# Altium schematic symbol library syhaunguyen.SchLib: 323 symbols (part 1 of 3)
Pins are listed as number, name and electrical type; pins without a type are passive.

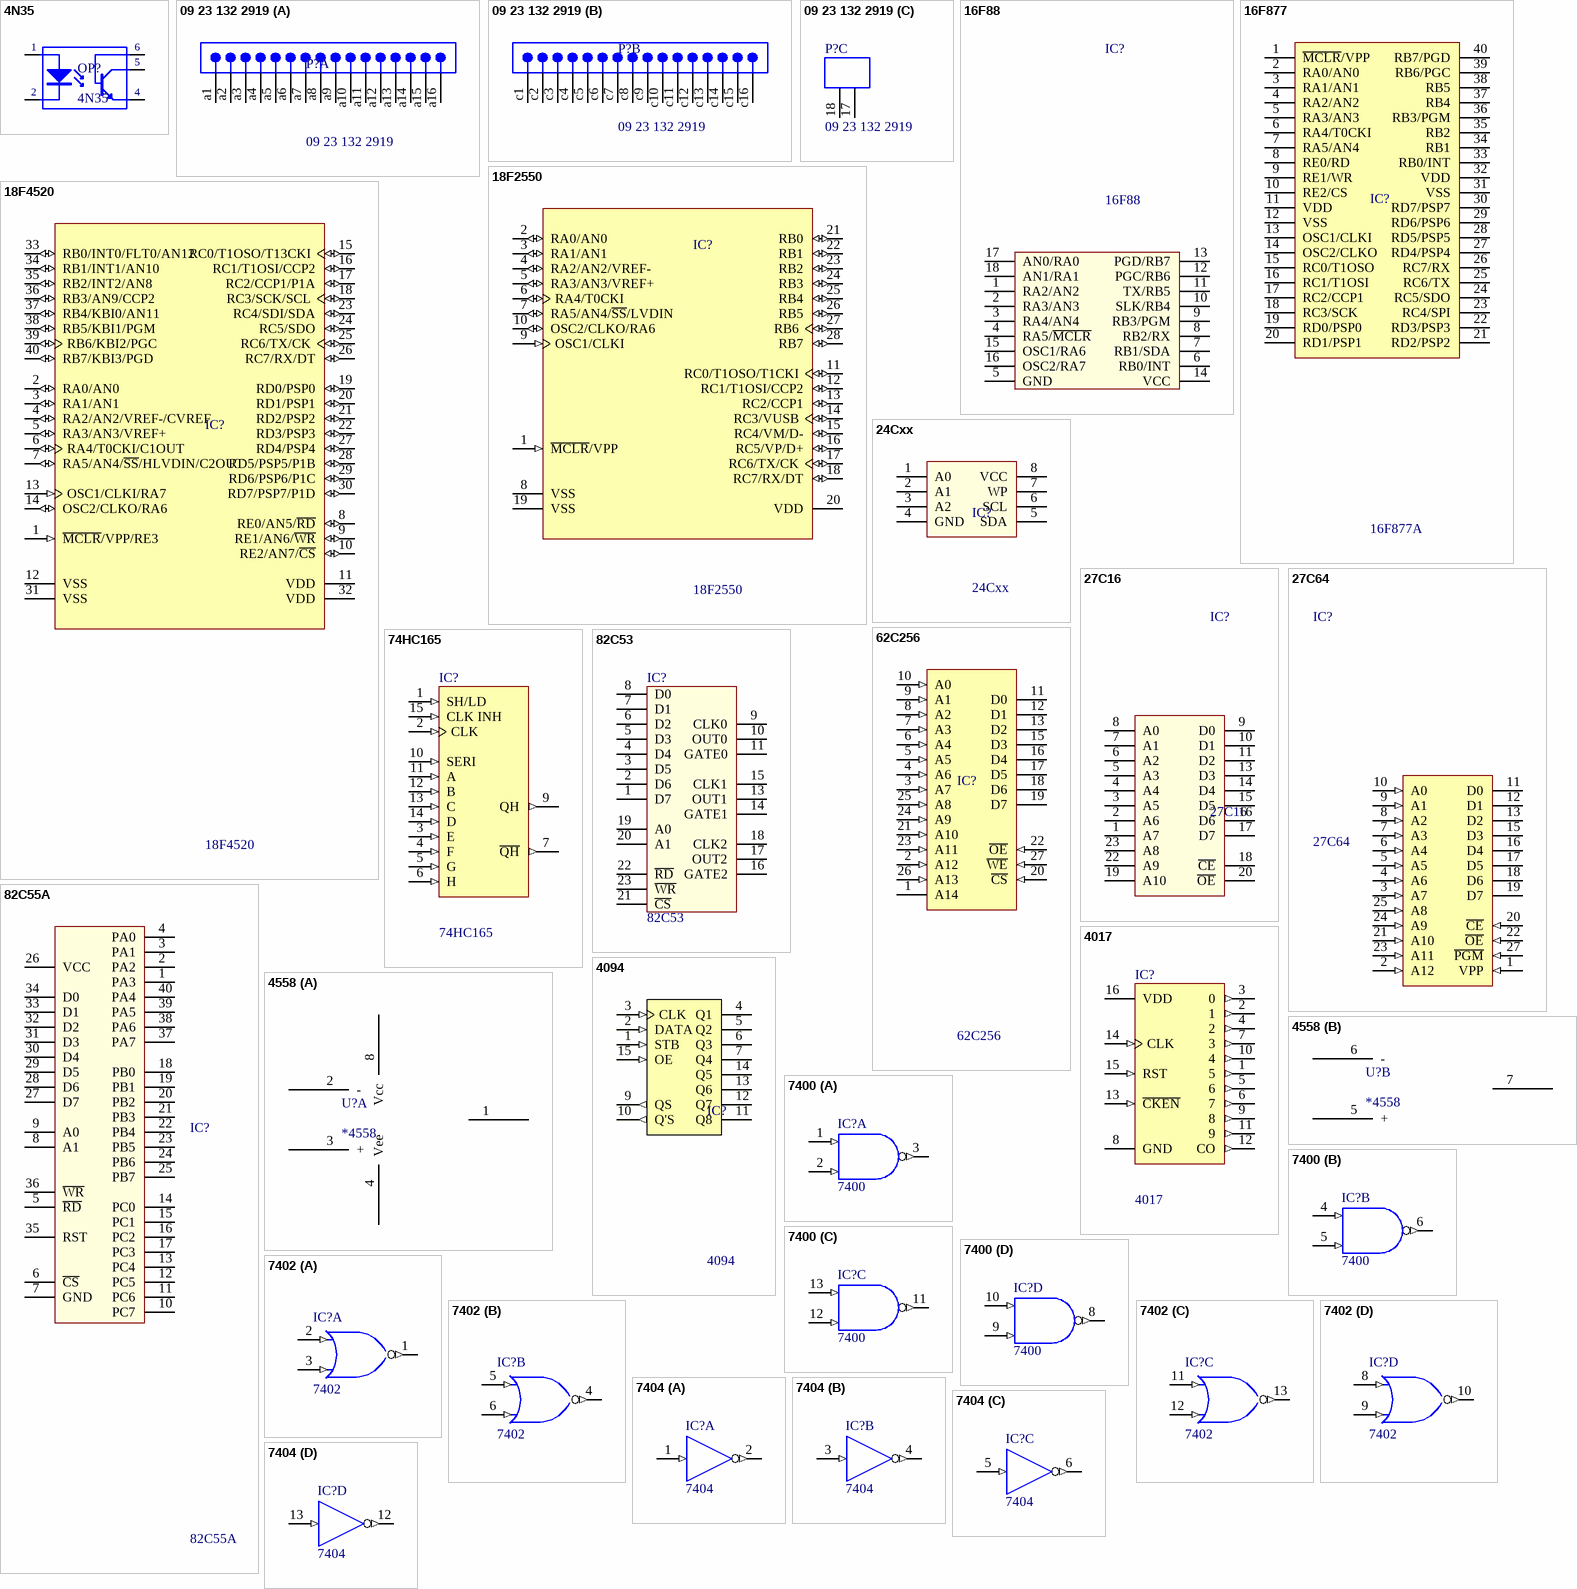
[diagram p0: symbols 4N35 to 7404]

## 4N35
designator OP?
Opto; Value: 4N35
footprint DIP6/W0.3 (6 PIN, W 300mil, Pin to pin 100mil)
pins: 1 A "Anode", 2 K "Cathode", 4 E "Emitter", 5 C "Collector", 6 C "Collector"

## 09 23 132 2919
designator P?
Eurocard DIN 41612, Type 2C, Half Size, 32 Position, Rows a+c, Performance level 1, Male, Lead 3.0 mm, Pitch 2.54 mm; DrillSize: Corresponds to nominal value.; Published: 6-Oct-2005; DatasheetDocument: 03-Jun-2003; PackageReference: 0923132x919; Publisher: Altium Limited; ComponentLink1Description: Manufacturer Link; ComponentLink1URL: http://www.harting.com/
footprint 0923132x919 (Connector; DIN 41612, Type 2C, Thru-Hole; Rows a+c, 32 Position; Right Angle)
part A pins: a1, a2, a3, a4, a5, a6, a7, a8, a9, a10, a11, a12, a13, a14, a15, a16
part B pins: c1, c2, c3, c4, c5, c6, c7, c8, c9, c10, c11, c12, c13, c14, c15, c16
part C pins: 17 MH1 "Mounting Fixture", 18 MH2 "Mounting Fixture"

## 16F88
designator IC?
PIC 16F88; Value: DIP18; Value: 16F88
footprint DIP18/W0.3 (18 PIN, W 300mil, Pin to pin 100mil)
pins: 1 RA2/AN2, 2 RA3/AN3, 3 RA4/AN4, 4 RA5/~{MCLR}, 5 GND, 6 RB0/INT, 7 RB1/SDA, 8 RB2/RX, 9 RB3/PGM, 10 SLK/RB4, 11 TX/RB5, 12 PGC/RB6, 13 PGD/RB7, 14 VCC, 15 OSC1/RA6, 16 OSC2/RA7, 17 AN0/RA0, 18 AN1/RA1

## 16F877
designator IC?, comment 16F877A
8K FLASH, 368B RAM, 256B EFROM; Value: PIC16F877A; Value: DIP 40; Copyright by: VanDungEvn
footprint DIP40/W0.6 (40 PIN, W 600mil, Pin to pin 100mil)
pins: 1 ~{MCLR}/VPP, 2 RA0/AN0, 3 RA1/AN1, 4 RA2/AN2, 5 RA3/AN3, 6 RA4/T0CKI, 7 RA5/AN4, 8 RE0/RD, 9 RE1/WR, 10 RE2/CS, 11 VDD, 12 VSS, 13 OSC1/CLKI, 14 OSC2/CLKO, 15 RC0/T1OSO, 16 RC1/T1OSI, 17 RC2/CCP1, 18 RC3/SCK, 19 RD0/PSP0, 20 RD1/PSP1, 21 RD2/PSP2, 22 RD3/PSP3, 23 RC4/SPI, 24 RC5/SDO, 25 RC6/TX, 26 RC7/RX, 27 RD4/PSP4, 28 RD5/PSP5, 29 RD6/PSP6, 30 RD7/PSP7, 31 VSS, 32 VDD, 33 RB0/INT, 34 RB1, 35 RB2, 36 RB3/PGM, 37 RB4, 38 RB5, 39 RB6/PGC, 40 RB7/PGD

## 18F2550
designator IC?
32KB Flash, 2048B RAM, 256B EFROM, 28-Pin PDIP; Value: DIP 28/W0.3; Value: 18F2550; Copyright by: VanDungEvn
footprint DIP28/W0.3 (28 PIN, W 300mil, Pin to pin 100mil)
pins: 1 ~{MCLR}/VPP (in), 2 RA0/AN0 (io), 3 RA1/AN1 (io), 4 RA2/AN2/VREF- (io), 5 RA3/AN3/VREF+ (io), 6 RA4/T0CKI (io), 7 RA5/AN4/~{SS}/LVDIN (io), 8 VSS (power), 9 OSC1/CLKI (in), 10 OSC2/CLKO/RA6 (io), 11 RC0/T1OSO/T1CKI (io), 12 RC1/T1OSI/CCP2 (io), 13 RC2/CCP1 (io), 14 RC3/VUSB (io), 15 RC4/VM/D- (io), 16 RC5/VP/D+ (io), 17 RC6/TX/CK (io), 18 RC7/RX/DT (io), 19 VSS (power), 20 VDD (power), 21 RB0 (io), 22 RB1 (io), 23 RB2 (io), 24 RB3 (io), 25 RB4 (io), 26 RB5 (io), 27 RB6 (io), 28 RB7 (io)

## 18F4520
designator IC?
32KB Flash, 1536B RAM, 256B EFROM, 40-Pin PDIP; Value: DIP 40; Value: 18F4520; Copyright by: VanDungEvn
footprint DIP40/W0.6 (40 PIN, W 600mil, Pin to pin 100mil)
pins: 1 ~{MCLR}/VPP/RE3 (in), 2 RA0/AN0 (io), 3 RA1/AN1 (io), 4 RA2/AN2/VREF-/CVREF (io), 5 RA3/AN3/VREF+ (io), 6 RA4/T0CKI/C1OUT (io), 7 RA5/AN4/~{SS}/HLVDIN/C2OUT (io), 8 RE0/AN5/~{RD} (io), 9 RE1/AN6/~{WR} (io), 10 RE2/AN7/~{CS} (io), 11 VDD (power), 12 VSS (power), 13 OSC1/CLKI/RA7 (in), 14 OSC2/CLKO/RA6 (io), 15 RC0/T1OSO/T13CKI (io), 16 RC1/T1OSI/CCP2 (io), 17 RC2/CCP1/P1A (io), 18 RC3/SCK/SCL (io), 19 RD0/PSP0 (io), 20 RD1/PSP1 (io), 21 RD2/PSP2 (io), 22 RD3/PSP3 (io), 23 RC4/SDI/SDA (io), 24 RC5/SDO (io), 25 RC6/TX/CK (io), 26 RC7/RX/DT (io), 27 RD4/PSP4 (io), 28 RD5/PSP5/P1B (io), 29 RD6/PSP6/P1C (io), 30 RD7/PSP7/P1D (io), 31 VSS (power), 32 VDD (power), 33 RB0/INT0/FLT0/AN12 (io), 34 RB1/INT1/AN10 (io), 35 RB2/INT2/AN8 (io), 36 RB3/AN9/CCP2 (io), 37 RB4/KBI0/AN11 (io), 38 RB5/KBI1/PGM (io), 39 RB6/KBI2/PGC (io), 40 RB7/KBI3/PGD (io)

## 24Cxx
designator IC?
Standard 2-Wire Bus Interface Serial EEPROM; Value: DIP 8; Value: 24Cxx; Copyright by: VanDungEvn
footprint DIP8/W0.3 (8 PIN, W 300mil, Pin to pin 100mil)
pins: 1 A0, 2 A1, 3 A2, 4 GND (power), 5 SDA, 6 SCL, 7 WP, 8 VCC (power)

## 27C16
designator IC?
16Kbit EFROM; Value: DIP 24/W0.6; Value: 27C16; Copyright by: VanDungEvn
footprint DIP24/W0.6 (DIP24/W.600, Pin to pin 100mil)
pins: 1 A7, 2 A6, 3 A5, 4 A4, 5 A3, 6 A2, 7 A1, 8 A0, 9 D0, 10 D1, 11 D2, 12 GND hidden to GND, 13 D3, 14 D4, 15 D5, 16 D6, 17 D7, 18 ~{CE}, 19 A10, 20 ~{OE}, 21 VPP hidden to VCC, 22 A9, 23 A8, 24 VCC hidden to VCC

## 27C64
designator IC?
64K EFROM; Value: DIP28/W0.6; Value: 27C64
footprint DIP28/W0.6 (DIP28/W.600, Pin to pin 100mil)
pins: 1 VPP (in), 2 A12 (in), 3 A7 (in), 4 A6 (in), 5 A5 (in), 6 A4 (in), 7 A3 (in), 8 A2 (in), 9 A1 (in), 10 A0 (in), 11 D0 (hiz), 12 D1 (hiz), 13 D2 (hiz), 14 GND hidden to GND, 15 D3 (hiz), 16 D4 (hiz), 17 D5 (hiz), 18 D6 (hiz), 19 D7 (hiz), 20 ~{CE} (in), 21 A10 (in), 22 ~{OE} (in), 23 A11 (in), 24 A9 (in), 25 A8 (in), 27 ~{PGM} (in), 28 VCC hidden to VCC

## 62C256
designator IC?
32K x 8 LOW POWER CMOS STATIC RAM; Value: DIP28/W0.6; Value: 62C256; Copyright by: VanDungEvn
footprint DIP28/W0.6 (DIP28/W.600, Pin to pin 100mil)
pins: 1 A14, 2 A12 (in), 3 A7 (in), 4 A6 (in), 5 A5 (in), 6 A4 (in), 7 A3 (in), 8 A2 (in), 9 A1 (in), 10 A0 (in), 11 D0 (hiz), 12 D1 (hiz), 13 D2 (hiz), 14 GND hidden to GND, 15 D3 (hiz), 16 D4 (hiz), 17 D5 (hiz), 18 D6 (hiz), 19 D7 (hiz), 20 ~{CS} (in), 21 A10 (in), 22 ~{OE} (in), 23 A11 (in), 24 A9 (in), 25 A8 (in), 26 A13 (in), 27 ~{WE} (in), 28 VCC hidden to VCC

## 74HC165
designator IC?
8-Bit Parallel In/Serial Out Shift Register
footprint DIP16/W0.3 (16 PIN, W 300mil, Pin to pin 100mil)
pins: 1 SH/LD (in), 2 CLK (in), 3 E (in), 4 F (in), 5 G (in), 6 H (in), 7 ~{QH} (out), 8 GND (power) hidden to GND, 9 QH (out), 10 SERI (in), 11 A (in), 12 B (in), 13 C (in), 14 D (in), 15 CLK INH (in), 16 VCC (power) hidden to VCC

## 82C53
designator IC?
Generator program; Value: DIP 24/W0.6; Value: 82C53
footprint DIP24/W0.6 (DIP24/W.600, Pin to pin 100mil)
pins: 1 D7, 2 D6, 3 D5, 4 D4, 5 D3, 6 D2, 7 D1, 8 D0, 9 CLK0, 10 OUT0, 11 GATE0, 12 GND (power) hidden to GND, 13 OUT1, 14 GATE1, 15 CLK1, 16 GATE2, 17 OUT2, 18 CLK2, 19 A0, 20 A1, 21 ~{CS}, 22 ~{RD}, 23 ~{WR}, 24 VCC (power) hidden to VCC

## 82C55A
designator IC?
CMOS Programmable  Peripheral Interface; Value: DIP40/W0.6; Value: 82C55A; Copyright by: VanDungEvn@Gmail.com
footprint DIP40/W0.6 (40 PIN, W 600mil, Pin to pin 100mil)
pins: 1 PA3, 2 PA2, 3 PA1, 4 PA0, 5 ~{RD}, 6 ~{CS}, 7 GND (power), 8 A1, 9 A0, 10 PC7, 11 PC6, 12 PC5, 13 PC4, 14 PC0, 15 PC1, 16 PC2, 17 PC3, 18 PB0, 19 PB1, 20 PB2, 21 PB3, 22 PB4, 23 PB5, 24 PB6, 25 PB7, 26 VCC (power), 27 D7, 28 D6, 29 D5, 30 D4, 31 D3, 32 D2, 33 D1, 34 D0, 35 RST, 36 ~{WR}, 37 PA7, 38 PA6, 39 PA5, 40 PA4

## 4017
designator IC?
Decade Counter/Divider with 10 Decoded Outputs; Designed by: VanDungEvn; Value: CD4017
footprint DIP16/W0.3 (16 PIN, W 300mil, Pin to pin 100mil)
pins: 1 5 (out), 2 1 (out), 3 0 (out), 4 2 (out), 5 6 (out), 6 7 (out), 7 3 (out), 8 GND (power), 9 8 (out), 10 4 (out), 11 9 (out), 12 CO (out), 13 ~{CKEN} (in), 14 CLK (in), 15 RST (in), 16 VDD (power)

## 4094
designator IC?
8-Stage Shift-AND-Store Bus Register; Value: 4094
footprint SO-16 (SOIC, 16-Leads, Body 9.9x3.9mm, Pitch 1.27mm, IPC Medium Density)
footprint DIP16/W0.3 (16 PIN, W 300mil, Pin to pin 100mil)
pins: 1 STB (in), 2 DATA (in), 3 CLK (in), 4 Q1 (hiz), 5 Q2 (hiz), 6 Q3 (hiz), 7 Q4 (hiz), 8 GND (power) hidden to GND, 9 QS (out), 10 Q'S (out), 11 Q8 (hiz), 12 Q7 (hiz), 13 Q6 (hiz), 14 Q5 (hiz), 15 OE (in), 16 VCC (power) hidden to VCC

## 4558
designator U?, comment *4558
footprint DIP8/W0.3 (8 PIN, W 300mil, Pin to pin 100mil)
part A pins: 1, 2 -, 3 +, 4 Vee (power), 8 Vcc (power)
part B pins: 5 +, 6 -, 7

## 7400
designator IC?
Quad 2-Input NAND Gate; Value: DIP14/W0.3; Value: 7400; Copyright by: VanDungEvn@Gmail.com
footprint DIP14/W0.3 (14PIN, W 300mil, Pin to pin 100mil)
pins on every part: 7 GND (power) hidden to GND, 14 VCC (power) hidden to VCC
part A pins: 1 A (in), 2 B (in), 3 ~{O} (out)
part B pins: 4 A (in), 5 B (in), 6 ~{O} (out)
part C pins: 11 ~{O} (out), 12 B (in), 13 A (in)
part D pins: 8 ~{O} (out), 9 B (in), 10 A (in)

## 7402
designator IC?
Quad 2-Input NOR Gate; Description: VanDungEvn@Gmail.com; Value: 7402
footprint DIP14/W0.3 (14PIN, W 300mil, Pin to pin 100mil)
pins on every part: 7 GND (power) hidden to GND, 14 VCC (power) hidden to VCC
part A pins: 1 ~{O} (out), 2 A (in), 3 B (in)
part B pins: 4 ~{O} (out), 5 A (in), 6 B (in)
part C pins: 11 A (in), 12 B (in), 13 ~{O} (out)
part D pins: 8 A (in), 9 B (in), 10 ~{O} (out)

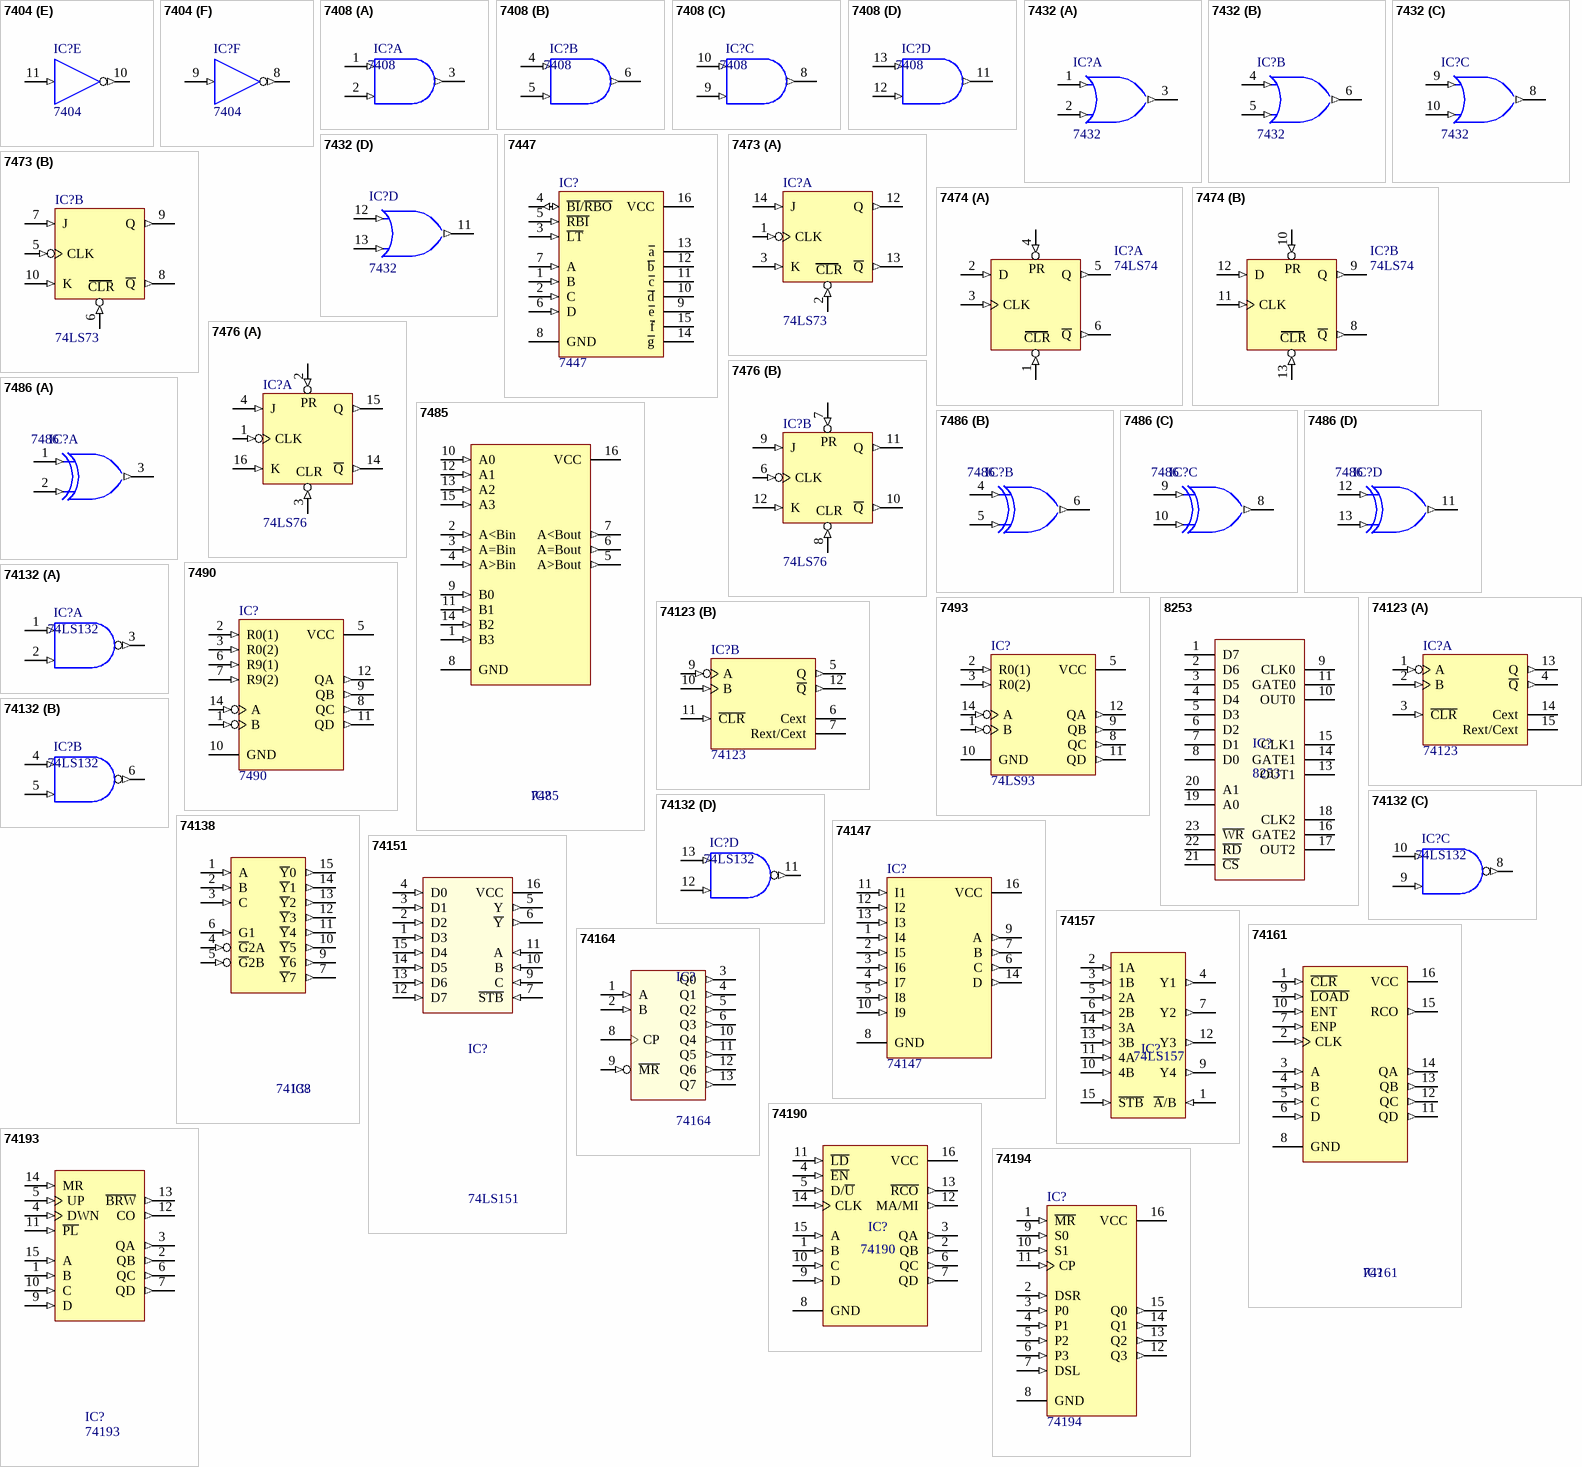
[diagram p1: symbols 7404 to 74194]

## 7404
designator IC?
Hex Inverter; Code_IPC: SOIC127P600-14; ComponentLink1Description: Manufacturer Link; ComponentLink1URL: http://www.national.com/; ComponentLink2Description: Datasheet; ComponentLink2URL: http://www.fairchildsemi.com/ds/74/74F04.pdf; Value: 7404
footprint DIP14/W0.3 (14PIN, W 300mil, Pin to pin 100mil)
pins on every part: 7 GND (power) hidden to GND, 14 VCC (power) hidden to VCC
part A pins: 1 A (in), 2 ~{O} (out)
part B pins: 3 A (in), 4 ~{O} (out)
part C pins: 5 A (in), 6 ~{O} (out)
part D pins: 12 ~{O} (out), 13 A (in)
part E pins: 10 ~{O} (out), 11 A (in)
part F pins: 8 ~{O} (out), 9 A (in)

## 7408
designator IC?
Quad 2-Input AND Gate; Description: VanDungEvn@Gmail.com; Value: 7408
footprint DIP14/W0.3 (14PIN, W 300mil, Pin to pin 100mil)
pins on every part: 7 GND (power) hidden to GND, 14 VCC (power) hidden to VCC
part A pins: 1 A (in), 2 B (in), 3 O (out)
part B pins: 4 A (in), 5 B (in), 6 O (out)
part C pins: 8 O (out), 9 B (in), 10 A (in)
part D pins: 11 O (out), 12 B (in), 13 A (in)

## 7432
designator IC?
Quad 2-Input OR Gate
footprint DIP14/W0.3 (14PIN, W 300mil, Pin to pin 100mil)
pins on every part: 7 GND (power) hidden to GND, 14 VCC (power) hidden to VCC
part A pins: 1 A (in), 2 B (in), 3 Y (out)
part B pins: 4 A (in), 5 B (in), 6 Y (out)
part C pins: 8 Y (out), 9 A (in), 10 B (in)
part D pins: 11 Y (out), 12 A (in), 13 B (in)

## 7447
designator IC?
BCD to 7-Segment Decoder/Driver; Value: 7447 , 74247; Description: VanDungEvn
footprint DIP16/W0.3 (16 PIN, W 300mil, Pin to pin 100mil)
pins: 1 B (in), 2 C (in), 3 ~{LT} (in), 4 ~{BI}/~{RBO} (io), 5 ~{RBI} (in), 6 D (in), 7 A (in), 8 GND (power), 9 ~{e} (oc), 10 ~{d} (oc), 11 ~{c} (oc), 12 ~{b} (oc), 13 ~{a} (oc), 14 ~{g} (oc), 15 ~{f} (oc), 16 VCC (power)

## 7473
designator IC?, comment 74LS73
Dual J-K Flip-Flop; Copyright by: VanDungEvn@Gmail.com; Value: 74LS73
footprint DIP14/W0.3 (14PIN, W 300mil, Pin to pin 100mil)
pins on every part: 4 VCC (power) hidden to VCC, 11 GND (power) hidden to GND
part A pins: 1 CLK (in), 2 CLR (in), 3 K (in), 12 Q (out), 13 ~{Q} (out), 14 J (in)
part B pins: 5 CLK (in), 6 CLR (in), 7 J (in), 8 ~{Q} (out), 9 Q (out), 10 K (in)

## 7474
designator IC?, comment 74LS74
Dual D Flip-Flop; Value: 74LS74; Copyright by: VanDungEvn@Gmail.com
footprint DIP14/W0.3 (14PIN, W 300mil, Pin to pin 100mil)
pins on every part: 7 GND (power) hidden to GND, 14 VCC (power) hidden to VCC
part A pins: 1 CLR (in), 2 D (in), 3 CLK (in), 4 PR (in), 5 Q (out), 6 ~{Q} (out)
part B pins: 8 ~{Q} (out), 9 Q (out), 10 PR (in), 11 CLK (in), 12 D (in), 13 CLR (in)

## 7476
designator IC?, comment 74LS76
Dual J-K Flip-Flop; Copyright by: VanDungEvn@Gmail.com; Value: 74LS76
footprint DIP16/W0.3 (16 PIN, W 300mil, Pin to pin 100mil)
pins on every part: 5 VCC (power) hidden to VCC, 13 GND (power) hidden to GND
part A pins: 1 CLK (in), 2 PR (in), 3 CLR (in), 4 J (in), 14 ~{Q} (out), 15 Q (out), 16 K (in)
part B pins: 6 CLK (in), 7 PR (in), 8 CLR (in), 9 J (in), 10 ~{Q} (out), 11 Q (out), 12 K (in)

## 7485
designator IC?
4-Bit Magnitude Comparator; Copyright by: VanDungEvn@Gmail.com; Value: 7485
footprint DIP16/W0.3 (16 PIN, W 300mil, Pin to pin 100mil)
pins: 1 B3 (in), 2 A<Bin (in), 3 A=Bin (in), 4 A>Bin (in), 5 A>Bout (out), 6 A=Bout (out), 7 A<Bout (out), 8 GND (power), 9 B0 (in), 10 A0 (in), 11 B1 (in), 12 A1 (in), 13 A2 (in), 14 B2 (in), 15 A3 (in), 16 VCC (power)

## 7486
designator IC?
Quad 2-Input XOR Gate; Value: 7486; Copyright by: VanDungEvn@Gmail.com
footprint DIP14/W0.3 (14PIN, W 300mil, Pin to pin 100mil)
pins on every part: 7 GND (power) hidden to GND, 14 VDD (power) hidden to VDD
part A pins: 1 A (in), 2 B (in), 3 Y (out)
part B pins: 4 A (in), 5 B (in), 6 Y (out)
part C pins: 8 Y (out), 9 A (in), 10 B (in)
part D pins: 11 Y (out), 12 A (in), 13 B (in)

## 7490
designator IC?
4-Bit Decade Counter; Description: VanDungEvn; Value: 7490
footprint DIP14/W0.3 (14PIN, W 300mil, Pin to pin 100mil)
pins: 1 B (in), 2 R0(1) (in), 3 R0(2) (in), 5 VCC (power), 6 R9(1) (in), 7 R9(2) (in), 8 QC (out), 9 QB (out), 10 GND (power), 11 QD (out), 12 QA (out), 14 A (in)

## 7493
designator IC?, comment 74LS93
Decade and Binary Counter; Creat by: VanDungEvn@Gmail.com
footprint DIP14/W0.3 (14PIN, W 300mil, Pin to pin 100mil)
footprint M14A_L (SOIC, 14-Leads, Body 8.6x3.9mm, Pitch 1.27mm, IPC High Density)
footprint M14A_M (SOIC, 14-Leads, Body 8.6x3.9mm, Pitch 1.27mm, IPC Low Density)
simulation model 74LS93 (SIMCODE)
pins: 1 B (in), 2 R0(1) (in), 3 R0(2) (in), 5 VCC (power), 8 QC (out), 9 QB (out), 10 GND (power), 11 QD (out), 12 QA (out), 14 A (in)

## 8253
designator IC?
CMOS PROGRAMMABLE INTERVAL TIMER
footprint DIP24/W0.6 (DIP24/W.600, Pin to pin 100mil)
pins: 1 D7, 2 D6, 3 D5, 4 D4, 5 D3, 6 D2, 7 D1, 8 D0, 9 CLK0, 10 OUT0, 11 GATE0, 12 GND (power) hidden to GND, 13 OUT1, 14 GATE1, 15 CLK1, 16 GATE2, 17 OUT2, 18 CLK2, 19 A0, 20 A1, 21 ~{CS}, 22 ~{RD}, 23 ~{WR}, 24 VCC hidden to VCC

## 74123
designator IC?
Dual Retriggerable One-Shot with Clear and Complementary Outputs; Value: 74LS123; Copyright by: VanDungEvn@Gmail.com
footprint DIP16/W0.3 (16 PIN, W 300mil)
pins on every part: 8 GND (power) hidden to GND, 16 VCC (power) hidden to VCC
part A pins: 1 A (in), 2 B (in), 3 ~{CLR} (in), 4 ~{Q} (out), 13 Q (out), 14 Cext, 15 Rext/Cext
part B pins: 5 Q (out), 6 Cext, 7 Rext/Cext, 9 A (in), 10 B (in), 11 ~{CLR} (in), 12 ~{Q} (out)

## 74132
designator IC?, comment 74LS132
Quad 2-Input NAND Gate Trigger smitch; Value: 74LS132; Copyright by: VanDungEvn@Gmail.com
footprint DIP14/W0.3 (14PIN, W 300mil, Pin to pin 100mil)
pins on every part: 7 GND (power) hidden to GND, 14 VCC (power) hidden to VCC
part A pins: 1 A (in), 2 B (in), 3 ~{O} (out)
part B pins: 4 A (in), 5 B (in), 6 ~{O} (out)
part C pins: 8 ~{O} (out), 9 B (in), 10 A (in)
part D pins: 11 ~{O} (out), 12 B (in), 13 A (in)

## 74138
designator IC?
3 -to- 8 Decoder - Out Low; Value: 74138; Copyright by: VanDungEvn@Gmail.com
footprint DIP16/W0.3 (16 PIN, W 300mil, Pin to pin 100mil)
pins: 1 A (in), 2 B (in), 3 C (in), 4 ~{G}2A (in), 5 ~{G}2B (in), 6 G1 (in), 7 ~{Y}7 (out), 8 GND (power) hidden to GND, 9 ~{Y}6 (out), 10 ~{Y}5 (out), 11 ~{Y}4 (out), 12 ~{Y}3 (out), 13 ~{Y}2 (out), 14 ~{Y}1 (out), 15 ~{Y}0 (out), 16 VCC (power) hidden to VCC

## 74147
designator IC?
10-Line to 4-Line Priority Encoder; Copyright by: VanDungEvn@Gmail.com
footprint DIP16/W0.3 (16 PIN, W 300mil, Pin to pin 100mil)
pins: 1 I4 (in), 2 I5 (in), 3 I6 (in), 4 I7 (in), 5 I8 (in), 6 C (out), 7 B (out), 8 GND (power), 9 A (out), 10 I9 (in), 11 I1 (in), 12 I2 (in), 13 I3 (in), 14 D (out), 16 VCC (power)

## 74151
designator IC?, comment 74LS151
8-Input Multiplexer; Value: 74LS151
footprint DIP16/W0.3 (16 PIN, W 300mil, Pin to pin 100mil)
pins: 1 D3 (in), 2 D2 (in), 3 D1 (in), 4 D0 (in), 5 Y (out), 6 ~{Y} (out), 7 ~{STB} (in), 8 GND (power) hidden to GND, 9 C (in), 10 B (in), 11 A (in), 12 D7 (in), 13 D6 (in), 14 D5 (in), 15 D4 (in), 16 VCC (power)

## 74157
designator IC?, comment 74LS157
Quad 2-Input Multiplexer; Value: 74LS157
footprint DIP16/W0.3 (16 PIN, W 300mil, Pin to pin 100mil)
pins: 1 ~{A}/B (in), 2 1A (in), 3 1B (in), 4 Y1 (out), 5 2A (in), 6 2B (in), 7 Y2 (out), 8 GND (power) hidden to GND, 9 Y4 (out), 10 4B (in), 11 4A (in), 12 Y3 (out), 13 3B (in), 14 3A (in), 15 ~{STB} (in), 16 VDD (power) hidden to VDD

## 74161
designator IC?
Synchronous 4-Bit Counter; Value: 74161; Copyright by: VanDungEvn@Gmail.com
footprint DIP16/W0.3 (16 PIN, W 300mil, Pin to pin 100mil)
pins: 1 ~{CLR} (in), 2 CLK (in), 3 A (in), 4 B (in), 5 C (in), 6 D (in), 7 ENP (in), 8 GND (power), 9 ~{LOAD} (in), 10 ENT (in), 11 QD (out), 12 QC (out), 13 QB (out), 14 QA (out), 15 RCO (out), 16 VCC (power)

## 74164
designator IC?
8-Bit Serial-In, Parallel-Out Shift Register; Value: 74HC164
footprint DIP14/W0.3 (14PIN, W 300mil, Pin to pin 100mil)
footprint SO-G14/Z7.45 (Small Outline; 14 Leads; Body Width 3.9 mm; Pitch 1.27 mm)
pins: 1 A (in), 2 B (in), 3 Q0 (out), 4 Q1 (out), 5 Q2 (out), 6 Q3 (out), 7 GND (power) hidden to GND, 8 CP, 9 ~{MR} (in), 10 Q4 (out), 11 Q5 (out), 12 Q6 (out), 13 Q7 (out), 14 VCC (power) hidden to VCC

## 74190
designator IC?
Synchronous 4-Bit Up/Down Counter with Mode Control; Value: 74190; Copyright by: VanDungEvn@Gmail.com
footprint DIP16/W0.3 (16 PIN, W 300mil, Pin to pin 100mil)
pins: 1 B (in), 2 QB (out), 3 QA (out), 4 ~{EN} (in), 5 D/~{U} (in), 6 QC (out), 7 QD (out), 8 GND (power), 9 D (in), 10 C (in), 11 ~{LD} (in), 12 MA/MI (out), 13 ~{RCO} (out), 14 CLK (in), 15 A (in), 16 VCC (power)

## 74193
designator IC?
Synchronous 4-Bit Up/Down Counter; Value: 74193; Copyright by: VanDungEvn@Gmail.com
footprint DIP16/W0.3 (16 PIN, W 300mil, Pin to pin 100mil)
pins: 1 B (in), 2 QB (out), 3 QA (out), 4 DWN (in), 5 UP (in), 6 QC (out), 7 QD (out), 8 GND (power) hidden to GND, 9 D (in), 10 C (in), 11 ~{PL} (in), 12 CO (out), 13 ~{BRW} (out), 14 MR (in), 15 A (in), 16 VCC (power) hidden to VCC

## 74194
designator IC?
4-Bit Bidirectional Universal Shift Register
footprint DIP16/W0.3 (16 PIN, W 300mil, Pin to pin 100mil)
pins: 1 ~{MR} (in), 2 DSR (in), 3 P0 (in), 4 P1 (in), 5 P2 (in), 6 P3 (in), 7 DSL (in), 8 GND (power), 9 S0 (in), 10 S1 (in), 11 CP (in), 12 Q3 (out), 13 Q2 (out), 14 Q1 (out), 15 Q0 (out), 16 VCC (power)

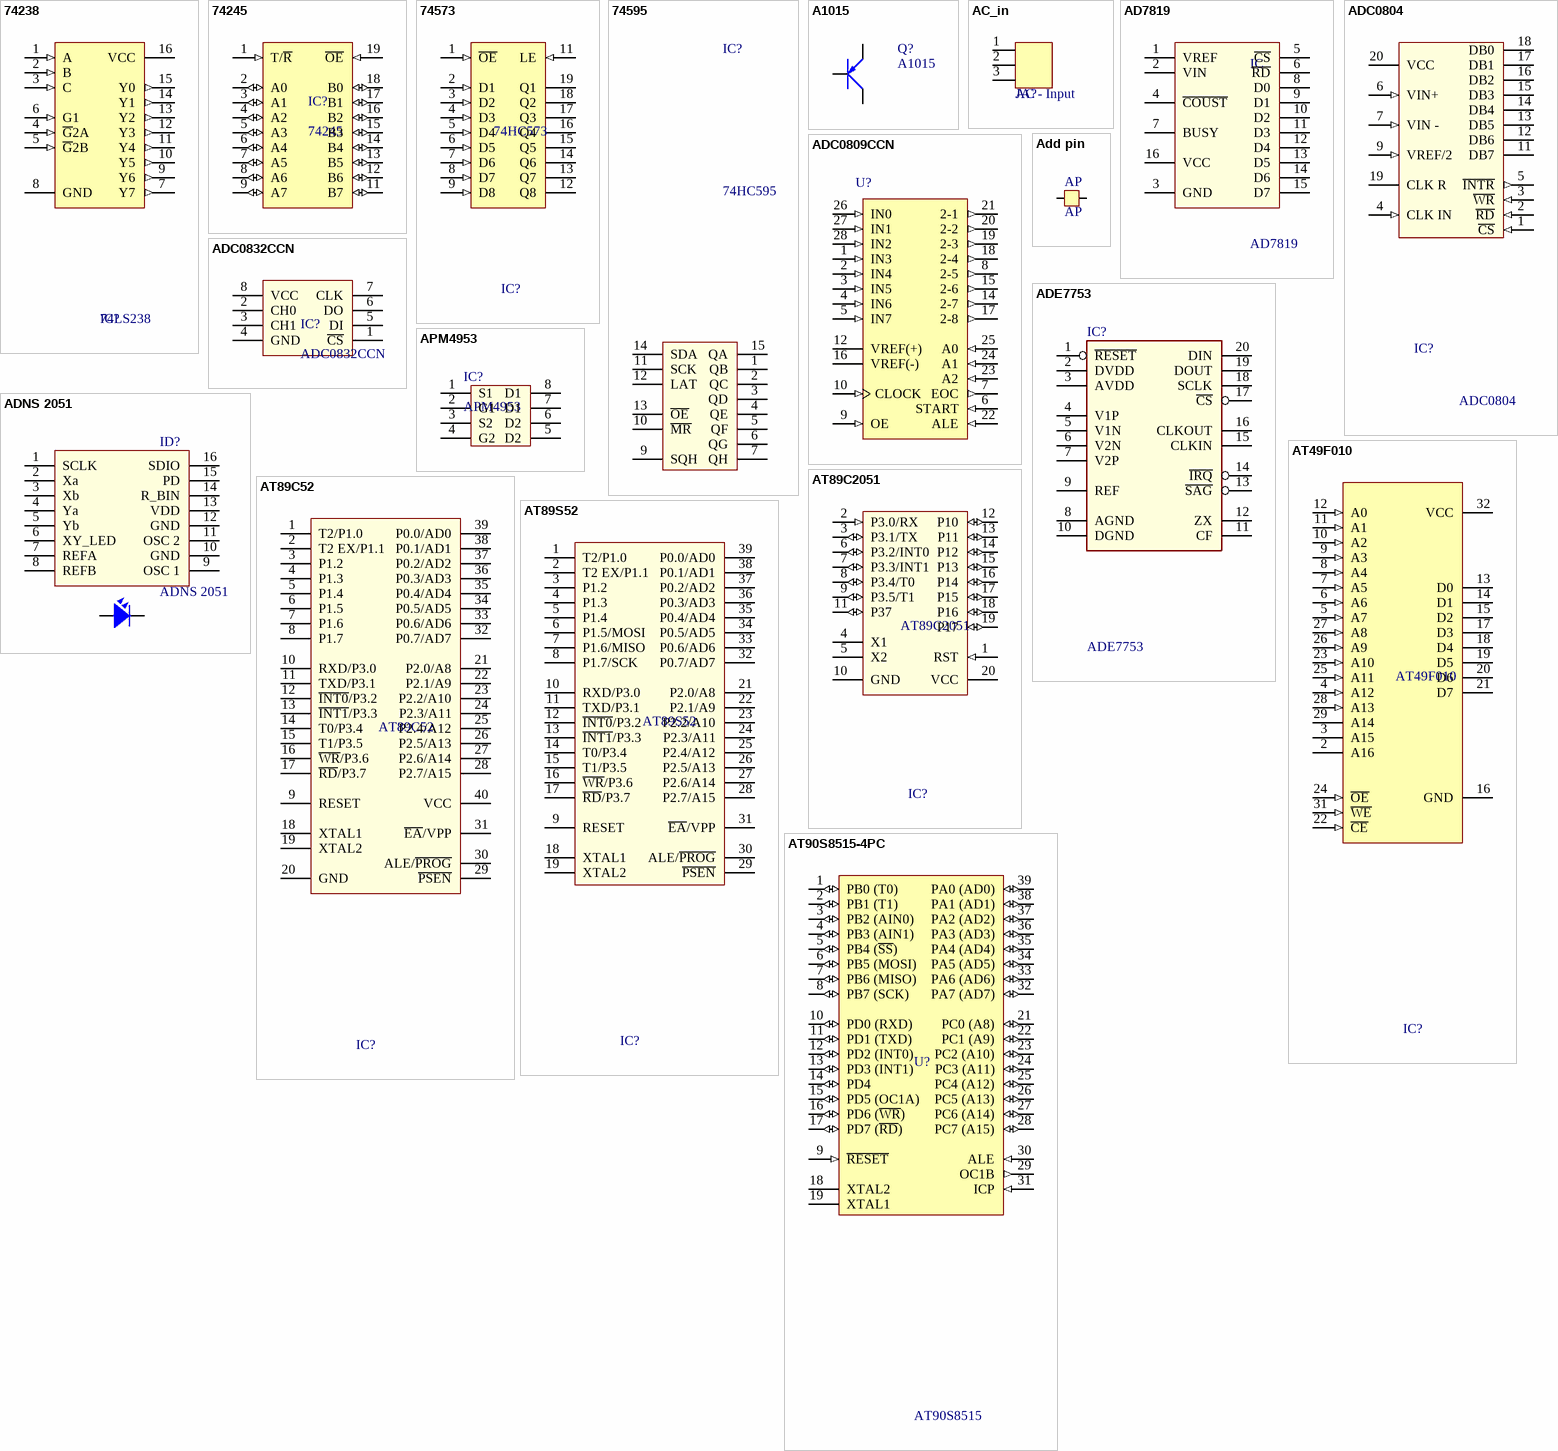
[diagram p2: symbols 74238 to AT90S8515-4PC]

## 74238
designator IC?, comment 74LS238
3 -to- 8 Decoder - Out High; Value: 74LS238; Copyright by: VanDungEvn@Gmail.com
footprint DIP16/W0.3 (16 PIN, W 300mil, Pin to pin 100mil)
pins: 1 A (in), 2 B (in), 3 C (in), 4 ~{G}2A (in), 5 ~{G}2B (in), 6 G1 (in), 7 Y7 (out), 8 GND (power), 9 Y6 (out), 10 Y5 (out), 11 Y4 (out), 12 Y3 (out), 13 Y2 (out), 14 Y1 (out), 15 Y0 (out), 16 VCC (power)

## 74245
designator IC?
Octal bus tranceiver; 3-state; Copyright by: VanDungEvn@gmail.com
footprint SO-20M (SOP, 20-Leads, Body 12.6x5.3mm, Pitch 1.27mm, IPC Low Density)
footprint SO-20B (SOIC, 20-Leads, Body 12.8x7.5mm, Pitch 1.27mm, IPC Medium Density)
footprint DIP20/W0.3 (DIP 20, 20 PIN, W 300mil, Pin to pin 100mil)
pins: 1 T/~{R} (in), 2 A0 (io), 3 A1 (io), 4 A2 (io), 5 A3 (io), 6 A4 (io), 7 A5 (io), 8 A6 (io), 9 A7 (io), 10 GND (power) hidden to GND, 11 B7 (io), 12 B6 (io), 13 B5 (io), 14 B4 (io), 15 B3 (io), 16 B2 (io), 17 B1 (io), 18 B0 (io), 19 ~{OE} (in), 20 VCC (power) hidden to VCC

## 74573
designator IC?, comment 74HC573
Octal D-Type Latch with 3-State Output Non-Inverting; Value: 74HC573; Copyright by: VanDungEvn@Gmail.com
footprint DIP20/W0.3 (DIP 20, 20 PIN, W 300mil, Pin to pin 100mil)
pins: 1 ~{OE} (in), 2 D1 (in), 3 D2 (in), 4 D3 (in), 5 D4 (in), 6 D5 (in), 7 D6 (in), 8 D7 (in), 9 D8 (in), 10 GND (power) hidden to GND, 11 LE (in), 12 Q8 (hiz), 13 Q7 (hiz), 14 Q6 (hiz), 15 Q5 (hiz), 16 Q4 (hiz), 17 Q3 (hiz), 18 Q2 (hiz), 19 Q1 (hiz), 20 VCC (power) hidden to VCC

## 74595
designator IC?, comment 74HC595
8 Bit Serial input - Parallel Output; Value: 74HC595
footprint DIP16/W0.3 (16 PIN, W 300mil, Pin to pin 100mil)
footprint SO-16 (SOIC, 16-Leads, Body 9.9x3.9mm, Pitch 1.27mm, IPC Medium Density)
pins: 1 QB, 2 QC, 3 QD, 4 QE, 5 QF, 6 QG, 7 QH, 8 GND hidden to GND, 9 SQH "OUTPUT", 10 ~{MR} "OUTPUT", 11 SCK "OUTPUT", 12 LAT "OUTPUT", 13 ~{OE} "OUTPUT", 14 SDA "OUTPUT", 15 QA, 16 VCC hidden to VCC

## A1015
designator Q?
PNP 600mW, ECB; Value: A1015
footprint QTO-92 (TO-92)
footprint SOT23B (SOT 23B)
pins: 1 E, 2 C, 3 B

## AC_in
designator JA?, comment AC - Input
Value: AC - Input
footprint AC_IN (AC_Input)
pins: 1, 2, 3

## AD7819
designator IC
8 bit A/D  Converter; Value: AD7819
footprint DIP16/W0.3 (16 PIN, W 300mil, Pin to pin 100mil)
pins: 1 VREF, 2 VIN, 3 GND, 4 ~{COUST}, 5 ~{CS}, 6 ~{RD}, 7 BUSY, 8 D0, 9 D1, 10 D2, 11 D3, 12 D4, 13 D5, 14 D6, 15 D7, 16 VCC

## ADC0804
designator IC?
8-Bit A/D Converter (01-05); Value: ADC0804
footprint DIP20/W0.3 (DIP 20, 20 PIN, W 300mil, Pin to pin 100mil)
pins: 1 ~{CS} (in), 2 ~{RD} (in), 3 ~{WR} (in), 4 CLK IN (in), 5 ~{INTR} (out), 6 VIN+ (in), 7 VIN - (in), 8 AGND (power) hidden to GND, 9 VREF/2 (in), 10 DGND (power) hidden to GND, 11 DB7 (hiz), 12 DB6 (hiz), 13 DB5 (hiz), 14 DB4 (hiz), 15 DB3 (hiz), 16 DB2 (hiz), 17 DB1 (hiz), 18 DB0 (hiz), 19 CLK R, 20 VCC (power)

## ADC0809CCN
designator U?
8-bit Microprocessor Compatible A/D Converters With 8-Channel Multiplexer; PartNumber: ADC0809CCN; Manufacturer: National Semiconductor; CompType: ADC IC; PackageTopMarking: NSUZXYYTTE#*ADC0809CCN; Published: 27-Nov-2008; DatasheetVersion: Sep-1992; PackageVersion: revB, Aug-1993; PackageReference: NA28E; Publisher: Altium Limited; PackageDescription: Molded Dip, 28 Lead, .600 Centers, Substractor Package; RoHS: O; PinCount: 28; DigiKeyPartNumber: ADC0809CCN-ND; ComponentLink1Description: ADC0809 Datasheet; ComponentLink1URL: http://www.national.com/ds/AD/ADC0809.pdf; ComponentLink2Description: ADC0809 Web Page; ComponentLink2URL: http://www.national.com/pf/AD/ADC0809.html; ComponentLink3Description: NA28E Package Page; ComponentLink3URL: http://www.national.com/packaging/folders/na28e.html
footprint DIP28/W0.6 (DIP28/W.600, Pin to pin 100mil)
pins: 1 IN3 (in), 2 IN4 (in), 3 IN5 (in), 4 IN6 (in), 5 IN7 (in), 6 START (in), 7 EOC (out), 8 2-5 (out), 9 OE (in), 10 CLOCK (in), 11 VCC (power) hidden to VCC, 12 VREF(+) (power), 13 GND (power) hidden to GND, 14 2-7 (out), 15 2-6 (out), 16 VREF(-) (power), 17 2-8 (out), 18 2-4 (out), 19 2-3 (out), 20 2-2 (out), 21 2-1 (out), 22 ALE (in), 23 A2 (in), 24 A1 (in), 25 A0 (in), 26 IN0 (in), 27 IN1 (in), 28 IN2 (in)

## ADC0832CCN
designator IC?
Dual 8-Bit Serial I/O A/D Converters
footprint DIP8/W0.3 (8 PIN, W 300mil, Pin to pin 100mil)
pins: 1 ~{CS}, 2 CH0, 3 CH1, 4 GND, 5 DI, 6 DO, 7 CLK, 8 VCC

## Add pin
designator AP, comment AP
Address Pin
footprint addpin (Add)
pins: 1, 2

## ADE7753
designator IC?
Single-Phase Multifunction Metering IC with di/dt Sensor Interface
footprint TSOP65-20BN (TSOP, 20-Leads, Body 6.5x4.4mm, Pitch 0.65mm, IPC Medium Density)
pins: 1 ~{RESET}, 2 DVDD, 3 AVDD, 4 V1P, 5 V1N, 6 V2N, 7 V2P, 8 AGND, 9 REF, 10 DGND, 11 CF, 12 ZX, 13 ~{SAG}, 14 ~{IRQ}, 15 CLKIN, 16 CLKOUT, 17 ~{CS}, 18 SCLK, 19 DOUT, 20 DIN

## ADNS 2051
designator ID?
MOUSE; Value: ADNS 2051
footprint ADNS 2051 (Footprint not found)
pins: 1 SCLK, 2 Xa, 3 Xb, 4 Ya, 5 Yb, 6 XY_LED, 7 REFA, 8 REFB, 9 OSC 1, 10 GND, 11 OSC 2, 12 GND, 13 VDD, 14 R_BIN, 15 PD, 16 SDIO, H1 A hidden, H2 A hidden, L1 A, L2 K

## APM4953
designator IC?
Dual P-Channel Enhancement Mode MOSFET
footprint SO-8 (8-Pin Small Outline Integrated Circuit 1.27 mm Pitch, IPC Medium Density)
pins: 1 S1, 2 G1, 3 S2, 4 G2, 5 D2, 6 D2, 7 D1, 8 D1

## AT49F010
designator IC?
Value: AT49F010
footprint DIP32/W0.6 (DIP32/W.600, Pin to pin 100mil)
pins: 2 A16, 3 A15, 4 A12 (in), 5 A7 (in), 6 A6 (in), 7 A5 (in), 8 A4 (in), 9 A3 (in), 10 A2 (in), 11 A1 (in), 12 A0 (in), 13 D0 (hiz), 14 D1 (hiz), 15 D2 (hiz), 16 GND, 17 D3 (hiz), 18 D4 (hiz), 19 D5 (hiz), 20 D6 (hiz), 21 D7 (hiz), 22 ~{CE} (in), 23 A10 (in), 24 ~{OE} (in), 25 A11 (in), 26 A9 (in), 27 A8 (in), 28 A13 (in), 29 A14, 31 ~{WE} (in), 32 VCC

## AT89C52
designator IC?
Atmel AT89C52, 8k Byte Flash Memory , 40 Pin; Value: AT89C52
footprint DIP40/W0.6 (40 PIN, W 600mil, Pin to pin 100mil)
pins: 1 T2/P1.0, 2 T2 EX/P1.1, 3 P1.2, 4 P1.3, 5 P1.4, 6 P1.5, 7 P1.6, 8 P1.7, 9 RESET, 10 RXD/P3.0, 11 TXD/P3.1, 12 ~{INT0}/P3.2, 13 ~{INT1}/P3.3, 14 T0/P3.4, 15 T1/P3.5, 16 ~{WR}/P3.6, 17 ~{RD}/P3.7, 18 XTAL1, 19 XTAL2, 20 GND (oe), 21 P2.0/A8, 22 P2.1/A9, 23 P2.2/A10, 24 P2.3/A11, 25 P2.4/A12, 26 P2.5/A13, 27 P2.6/A14, 28 P2.7/A15, 29 ~{PSEN}, 30 ALE/~{PROG}, 31 ~{EA}/VPP, 32 P0.7/AD7, 33 P0.6/AD6, 34 P0.5/AD5, 35 P0.4/AD4, 36 P0.3/AD3, 37 P0.2/AD2, 38 P0.1/AD1, 39 P0.0/AD0, 40 VCC (power)

## AT89C2051
designator IC?
AT89C2051, 4k Flash Memory , 20 Pin; Value: DIP20/W0.3; Value: AT89C2051
footprint DIP20/W0.3 (DIP 20, 20 PIN, W 300mil, Pin to pin 100mil)
pins: 1 RST (in), 2 P3.0/RX (in), 3 P3.1/TX (io), 4 X1, 5 X2, 6 P3.2/INT0 (io), 7 P3.3/INT1 (io), 8 P3.4/T0 (io), 9 P3.5/T1 (io), 10 GND, 11 P37 (io), 12 P10 (io), 13 P11 (io), 14 P12 (io), 15 P13 (io), 16 P14 (io), 17 P15 (io), 18 P16 (io), 19 P17 (io), 20 VCC

## AT89S52
designator IC?
AT89S52, 8k Byte Flash Memory , 40 Pin; Value: AT89S52
footprint DIP40/W0.6 (40 PIN, W 600mil, Pin to pin 100mil)
pins: 1 T2/P1.0, 2 T2 EX/P1.1, 3 P1.2, 4 P1.3, 5 P1.4, 6 P1.5/MOSI, 7 P1.6/MISO, 8 P1.7/SCK, 9 RESET, 10 RXD/P3.0, 11 TXD/P3.1, 12 ~{INT0}/P3.2, 13 ~{INT1}/P3.3, 14 T0/P3.4, 15 T1/P3.5, 16 ~{WR}/P3.6, 17 ~{RD}/P3.7, 18 XTAL1, 19 XTAL2, 20 GND (power) hidden to GND, 21 P2.0/A8, 22 P2.1/A9, 23 P2.2/A10, 24 P2.3/A11, 25 P2.4/A12, 26 P2.5/A13, 27 P2.6/A14, 28 P2.7/A15, 29 ~{PSEN}, 30 ALE/~{PROG}, 31 ~{EA}/VPP, 32 P0.7/AD7, 33 P0.6/AD6, 34 P0.5/AD5, 35 P0.4/AD4, 36 P0.3/AD3, 37 P0.2/AD2, 38 P0.1/AD1, 39 P0.0/AD0, 40 VCC (power) hidden to VCC

## AT90S8515-4PC
designator U?, comment AT90S8515
8-Bit AVR Microcontroller with 8K Bytes of In-System Programmable Flash Memory; Published: 17-Sep-2003; LatestRevisionDate: 04-Mar-2005; LatestRevisionNote: Stylized 3D Model Added.; DatasheetVersion: 0841G-09/01; PackageVersion: Dec-1999; PackageReference: 40P6; Publisher: Altium Limited; PackageDescription: DIP; 40 Leads; Row Spacing 15.24 mm; Pitch 2.54 mm; ComponentLink1Description: Manufacturer Link; ComponentLink1URL: http://www.atmel.com; ComponentLink2Description: Datasheet; ComponentLink2URL: http://www.atmel.com/dyn/resources/prod_documents/doc0841.pdf
footprint DIP40/W0.6 (40 PIN, W 600mil, Pin to pin 100mil)
pins: 1 PB0 (T0) (io), 2 PB1 (T1) (io), 3 PB2 (AIN0) (io), 4 PB3 (AIN1) (io), 5 PB4 (~{SS}) (io), 6 PB5 (MOSI) (io), 7 PB6 (MISO) (io), 8 PB7 (SCK) (io), 9 ~{RESET} (in), 10 PD0 (RXD) (io), 11 PD1 (TXD) (io), 12 PD2 (INT0) (io), 13 PD3 (INT1) (io), 14 PD4 (io), 15 PD5 (OC1A) (io), 16 PD6 (~{WR}) (io), 17 PD7 (~{RD}) (io), 18 XTAL2, 19 XTAL1, 20 GND (power) hidden to GND, 21 PC0 (A8) (io), 22 PC1 (A9) (io), 23 PC2 (A10) (io), 24 PC3 (A11) (io), 25 PC4 (A12) (io), 26 PC5 (A13) (io), 27 PC6 (A14) (io), 28 PC7 (A15) (io), 29 OC1B (out), 30 ALE (in), 31 ICP (in), 32 PA7 (AD7) (io), 33 PA6 (AD6) (io), 34 PA5 (AD5) (io), 35 PA4 (AD4) (io), 36 PA3 (AD3) (io), 37 PA2 (AD2) (io), 38 PA1 (AD1) (io), 39 PA0 (AD0) (io), 40 VCC (power) hidden to VCC

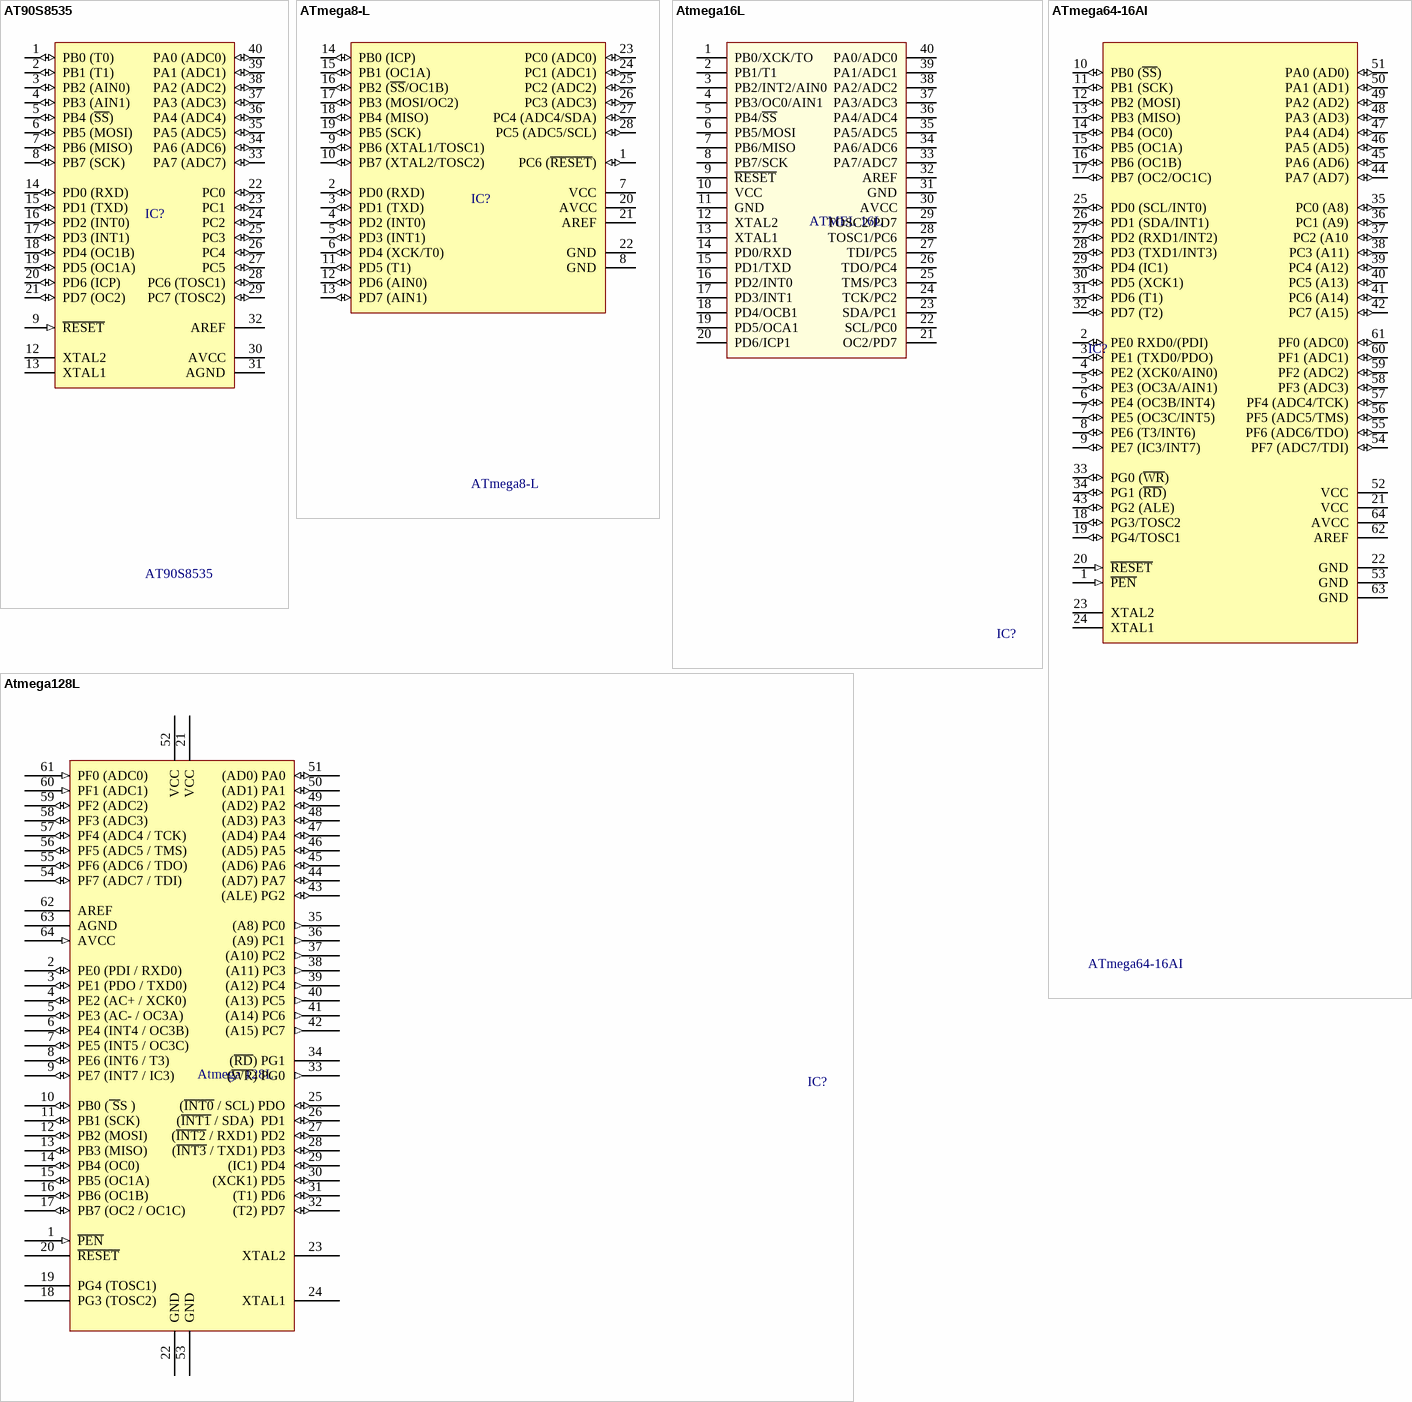
[diagram p3: symbols AT90S8535 to Atmega128L]

## AT90S8535
designator IC?
8-Bit AVR Microcontroller with 8K Bytes of In-System Programmable Flash Memory; Value: AT90S8535
footprint DIP40/W0.6 (40 PIN, W 600mil, Pin to pin 100mil)
pins: 1 PB0 (T0) (io), 2 PB1 (T1) (io), 3 PB2 (AIN0) (io), 4 PB3 (AIN1) (io), 5 PB4 (~{SS}) (io), 6 PB5 (MOSI) (io), 7 PB6 (MISO) (io), 8 PB7 (SCK) (io), 9 ~{RESET} (in), 10 VCC (power) hidden to VCC, 11 GND (power) hidden to GND, 12 XTAL2, 13 XTAL1, 14 PD0 (RXD) (io), 15 PD1 (TXD) (io), 16 PD2 (INT0) (io), 17 PD3 (INT1) (io), 18 PD4 (OC1B) (io), 19 PD5 (OC1A) (io), 20 PD6 (ICP) (io), 21 PD7 (OC2) (io), 22 PC0 (io), 23 PC1 (io), 24 PC2 (io), 25 PC3 (io), 26 PC4 (io), 27 PC5 (io), 28 PC6 (TOSC1) (io), 29 PC7 (TOSC2) (io), 30 AVCC (power), 31 AGND (power), 32 AREF, 33 PA7 (ADC7) (io), 34 PA6 (ADC6) (io), 35 PA5 (ADC5) (io), 36 PA4 (ADC4) (io), 37 PA3 (ADC3) (io), 38 PA2 (ADC2) (io), 39 PA1 (ADC1) (io), 40 PA0 (ADC0) (io)

## ATmega8-L
designator IC?
8-Bit AVR Microcontroller with 8K Bytes of In-System Programmable Flash Memory; Value: ATmega8-L
footprint QFP7X7-G32/X.45N (QFP; 32 Leads; Body 7 x 7 mm; Pitch 0.8 mm)
footprint DIP28/W0.3 (28 PIN, W 300mil, Pin to pin 100mil)
pins: 1 PC6 (~{RESET}) (io), 2 PD0 (RXD) (io), 3 PD1 (TXD) (io), 4 PD2 (INT0) (io), 5 PD3 (INT1) (io), 6 PD4 (XCK/T0) (io), 7 VCC (power), 8 GND (power), 9 PB6 (XTAL1/TOSC1) (io), 10 PB7 (XTAL2/TOSC2) (io), 11 PD5 (T1) (io), 12 PD6 (AIN0) (io), 13 PD7 (AIN1) (io), 14 PB0 (ICP) (io), 15 PB1 (OC1A) (io), 16 PB2 (~{SS}/OC1B) (io), 17 PB3 (MOSI/OC2) (io), 18 PB4 (MISO) (io), 19 PB5 (SCK) (io), 20 AVCC (power), 21 AREF, 22 GND (power), 23 PC0 (ADC0) (io), 24 PC1 (ADC1) (io), 25 PC2 (ADC2) (io), 26 PC3 (ADC3) (io), 27 PC4 (ADC4/SDA) (io), 28 PC5 (ADC5/SCL) (io)

## Atmega16L
designator IC?, comment ATMEL 16L
8-Bit AVR Microcontroller with 16K Bytes of In-System Programmable Flash Memory; Value: Atmega 16L
footprint DIP40/W0.6 (40 PIN, W 600mil, Pin to pin 100mil)
pins: 1 PB0/XCK/TO, 2 PB1/T1, 3 PB2/INT2/AIN0, 4 PB3/OC0/AIN1, 5 PB4/~{SS}, 6 PB5/MOSI, 7 PB6/MISO, 8 PB7/SCK, 9 ~{RESET}, 10 VCC, 11 GND, 12 XTAL2, 13 XTAL1, 14 PD0/RXD, 15 PD1/TXD, 16 PD2/INT0, 17 PD3/INT1, 18 PD4/OCB1, 19 PD5/OCA1, 20 PD6/ICP1, 21 OC2/PD7, 22 SCL/PC0, 23 SDA/PC1, 24 TCK/PC2, 25 TMS/PC3, 26 TDO/PC4, 27 TDI/PC5, 28 TOSC1/PC6, 29 TOSC2/PD7, 30 AVCC, 31 GND, 32 AREF, 33 PA7/ADC7, 34 PA6/ADC6, 35 PA5/ADC5, 36 PA4/ADC4, 37 PA3/ADC3, 38 PA2/ADC2, 39 PA1/ADC1, 40 PA0/ADC0

## ATmega64-16AI
designator IC?
8-Bit AVR Microcontroller with 64K Bytes of In-System Programmable Flash Memory; Published: 17-Sep-2003; LatestRevisionDate: 13-Apr-2006; LatestRevisionNote: IPC-7351 Footprint Added.; DatasheetVersion: 2490C-AVR-009/02; PackageVersion: revB, Oct-2001; PackageReference: 64A; Publisher: Altium Limited; PackageDescription: 64-Pin Thin Quad Flat Pack 0.8 mm Pitch; Code_JEDEC: MS-026-AEB; ComponentLink1Description: Manufacturer Link; ComponentLink1URL: http://www.atmel.com; ComponentLink2Description: Datasheet; ComponentLink2URL: http://www.atmel.com/dyn/resources/prod_documents/doc2490.pdf
footprint 64A_N (Thin QFP, 64-Leads, Body 14x14mm, Pitch 0.8mm, IPC Medium Density)
footprint 64A_L (Thin QFP, 64-Leads, Body 14x14mm, Pitch 0.8mm, IPC High Density)
footprint 64A_M (Thin QFP, 64-Leads, Body 14x14mm, Pitch 0.8mm, IPC Low Density)
pins: 1 ~{PEN} (in), 2 PE0 RXD0/(PDI) (io), 3 PE1 (TXD0/PDO) (io), 4 PE2 (XCK0/AIN0) (io), 5 PE3 (OC3A/AIN1) (io), 6 PE4 (OC3B/INT4) (io), 7 PE5 (OC3C/INT5) (io), 8 PE6 (T3/INT6) (io), 9 PE7 (IC3/INT7) (io), 10 PB0 (~{SS}) (io), 11 PB1 (SCK) (io), 12 PB2 (MOSI) (io), 13 PB3 (MISO) (io), 14 PB4 (OC0) (io), 15 PB5 (OC1A) (io), 16 PB6 (OC1B) (io), 17 PB7 (OC2/OC1C) (io), 18 PG3/TOSC2 (io), 19 PG4/TOSC1 (io), 20 ~{RESET} (in), 21 VCC (power), 22 GND (power), 23 XTAL2, 24 XTAL1, 25 PD0 (SCL/INT0) (io), 26 PD1 (SDA/INT1) (io), 27 PD2 (RXD1/INT2) (io), 28 PD3 (TXD1/INT3) (io), 29 PD4 (IC1) (io), 30 PD5 (XCK1) (io), 31 PD6 (T1) (io), 32 PD7 (T2) (io), 33 PG0 (~{WR}) (io), 34 PG1 (~{RD}) (io), 35 PC0 (A8) (io), 36 PC1 (A9) (io), 37 PC2 (A10 (io), 38 PC3 (A11) (io), 39 PC4 (A12) (io), 40 PC5 (A13) (io), 41 PC6 (A14) (io), 42 PC7 (A15) (io), 43 PG2 (ALE) (io), 44 PA7 (AD7) (io), 45 PA6 (AD6) (io), 46 PA5 (AD5) (io), 47 PA4 (AD4) (io), 48 PA3 (AD3) (io), 49 PA2 (AD2) (io), 50 PA1 (AD1) (io), 51 PA0 (AD0) (io), 52 VCC (power), 53 GND (power), 54 PF7 (ADC7/TDI) (io), 55 PF6 (ADC6/TDO) (io), 56 PF5 (ADC5/TMS) (io), 57 PF4 (ADC4/TCK) (io), 58 PF3 (ADC3) (io), 59 PF2 (ADC2) (io), 60 PF1 (ADC1) (io), 61 PF0 (ADC0) (io), 62 AREF, 63 GND (power), 64 AVCC (power)

## Atmega128L
designator IC?, comment Atmega 128L
8-Bit AVR Microcontroller with 128K Bytes of In-System Programmable Flash Memory; Value: Atmega 128L
footprint Atmega 128L (Atmega 128L, 64 pin SMT)
pins: 1 ~{PEN} (in), 2 PE0 (PDI / RXD0) (io), 3 PE1 (PDO / TXD0) (io), 4 PE2 (AC+ / XCK0) (io), 5 PE3 (AC- / OC3A) (io), 6 PE4 (INT4 / OC3B) (io), 7 PE5 (INT5 / OC3C) (io), 8 PE6 (INT6 / T3) (io), 9 PE7 (INT7 / IC3) (io), 10 PB0 (~{ S}S ) (io), 11 PB1 (SCK) (io), 12 PB2 (MOSI) (io), 13 PB3 (MISO) (io), 14 PB4 (OC0) (io), 15 PB5 (OC1A) (io), 16 PB6 (OC1B) (io), 17 PB7 (OC2 / OC1C) (io), 18 PG3 (TOSC2), 19 PG4 (TOSC1), 20 ~{RESET}, 21 VCC (power), 22 GND (power), 23 XTAL2, 24 XTAL1, 25 (~{INT0} / SCL) PDO (io), 26 (~{INT1} / SDA)  PD1 (io), 27 (~{INT2} / RXD1) PD2 (io), 28 (~{INT3} / TXD1) PD3 (io), 29 (IC1) PD4 (io), 30 (XCK1) PD5 (io), 31 (T1) PD6 (io), 32 (T2) PD7 (io), 33 (~{WR}) PG0 (out), 34 (~{RD}) PG1, 35 (A8) PC0 (out), 36 (A9) PC1 (out), 37 (A10) PC2 (out), 38 (A11) PC3 (out), 39 (A12) PC4 (out), 40 (A13) PC5 (out), 41 (A14) PC6 (out), 42 (A15) PC7 (out), 43 (ALE) PG2 (io), 44 (AD7) PA7 (io), 45 (AD6) PA6 (io), 46 (AD5) PA5 (io), 47 (AD4) PA4 (io), 48 (AD3) PA3 (io), 49 (AD2) PA2 (io), 50 (AD1) PA1 (io), 51 (AD0) PA0 (io), 52 VCC (power), 53 GND (power), 54 PF7 (ADC7 / TDI) (io), 55 PF6 (ADC6 / TDO) (io), 56 PF5 (ADC5 / TMS) (io), 57 PF4 (ADC4 / TCK) (io), 58 PF3 (ADC3) (io), 59 PF2 (ADC2) (io), 60 PF1 (ADC1) (in), 61 PF0 (ADC0) (in), 62 AREF, 63 AGND, 64 AVCC (in)

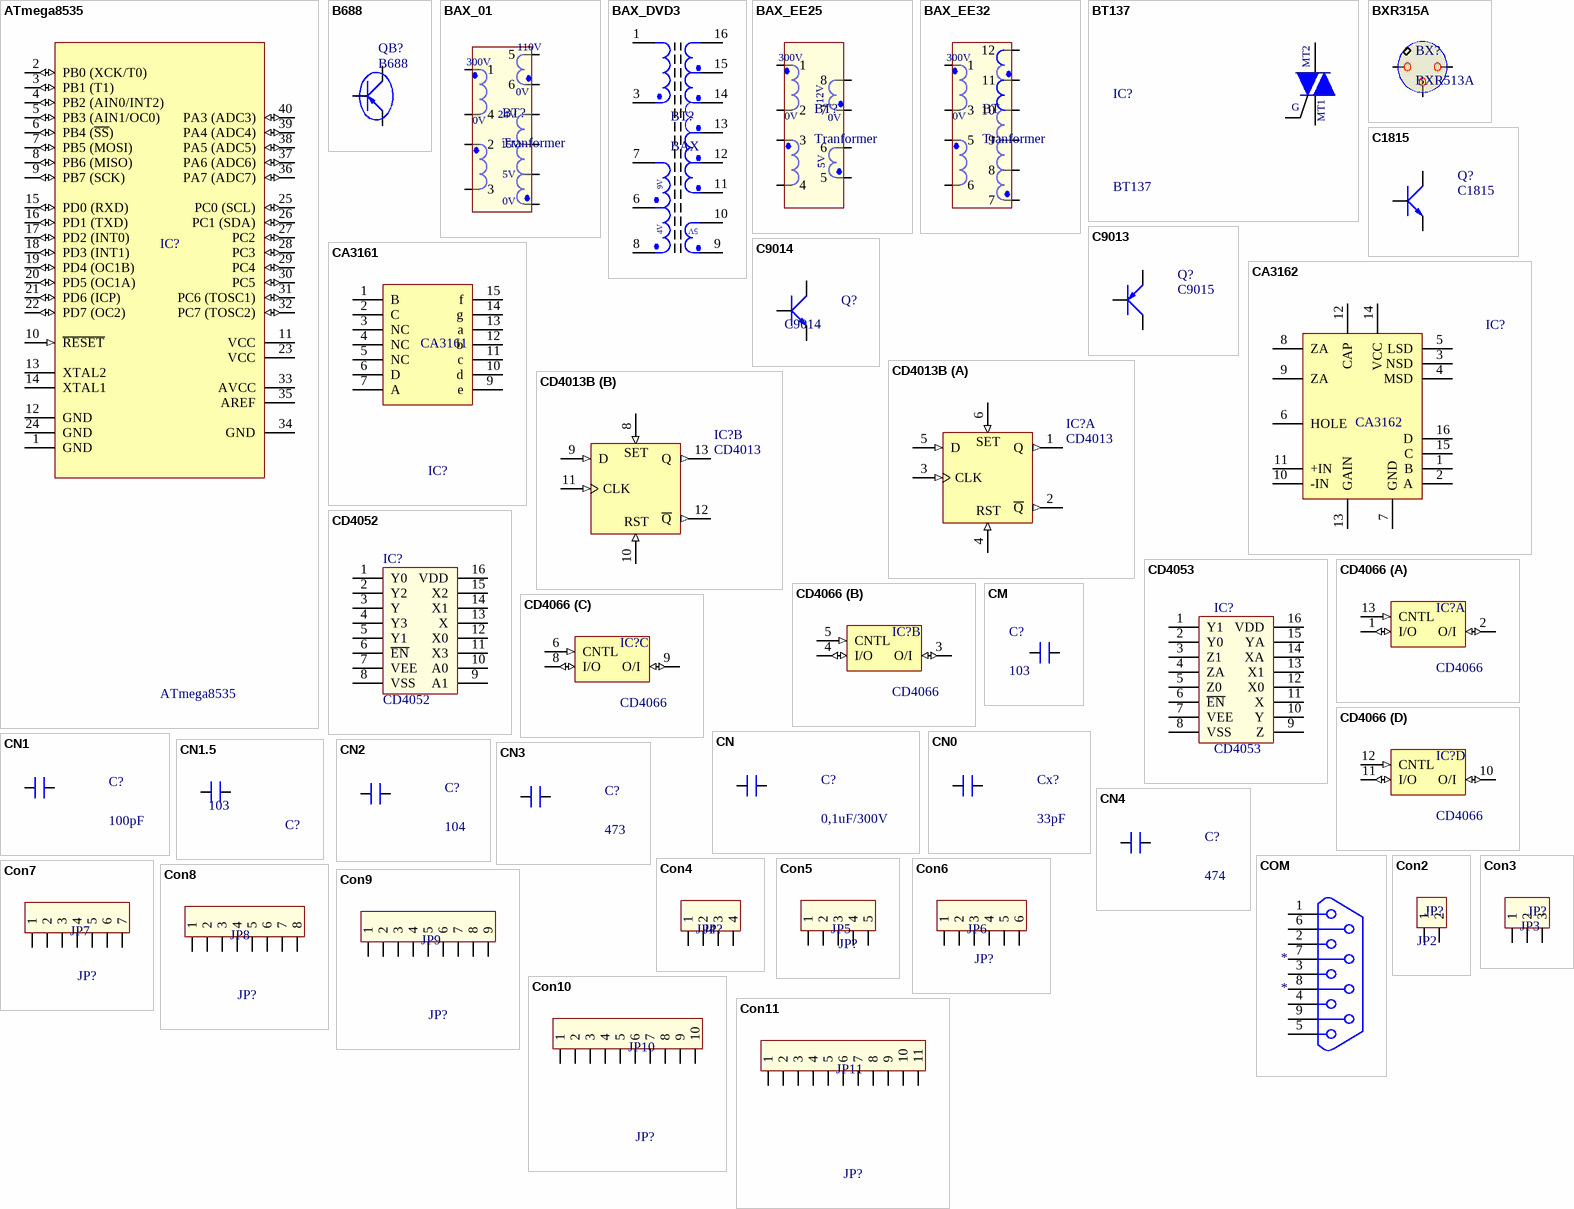
[diagram p4: symbols ATmega8535 to Con11]

## ATmega8535
designator IC?
8-Bit AVR Microcontroller with 8K Bytes of In-System Programmable Flash Memory
footprint DIP40/W0.6 (40 PIN, W 600mil, Pin to pin 100mil)
pins: 1 GND (power), 2 PB0 (XCK/T0) (io), 3 PB1 (T1) (io), 4 PB2 (AIN0/INT2) (io), 5 PB3 (AIN1/OC0) (io), 6 PB4 (~{SS}) (io), 7 PB5 (MOSI) (io), 8 PB6 (MISO) (io), 9 PB7 (SCK) (io), 10 ~{RESET} (in), 11 VCC (power), 12 GND (power), 13 XTAL2, 14 XTAL1, 15 PD0 (RXD) (io), 16 PD1 (TXD) (io), 17 PD2 (INT0) (io), 18 PD3 (INT1) (io), 19 PD4 (OC1B) (io), 20 PD5 (OC1A) (io), 21 PD6 (ICP) (io), 22 PD7 (OC2) (io), 23 VCC (power), 24 GND (power), 25 PC0 (SCL) (io), 26 PC1 (SDA) (io), 27 PC2 (io), 28 PC3 (io), 29 PC4 (io), 30 PC5 (io), 31 PC6 (TOSC1) (io), 32 PC7 (TOSC2) (io), 33 AVCC (power), 34 GND (power), 35 AREF, 36 PA7 (ADC7) (io), 37 PA6 (ADC6) (io), 38 PA5 (ADC5) (io), 39 PA4 (ADC4) (io), 40 PA3 (ADC3) (io)

## B688
designator QB?
Transistor Power Supply; Value: B688
footprint QTO-247 (TO-247)
pins: 1 B, 2 C, 3 E

## BAX_01
designator BT?, comment Tranformer
Value: BA xung
footprint BAX_01 (Bien ap xung cho nguon T9AT)
pins: 1, 2, 3, 4, 5, 6, 7, 8, 9, 10
text: 110V; 300V; 0V; 24V; 15V; 5V

## BAX_DVD3
designator BT?, comment BAX
Bien ap xung DVD; Designed by: VanDungEvn; Value: BAX
footprint BAX_DVD3 (Bien ap xung DVD3)
pins: 1, 3, 6, 7, 8, 9, 10, 11, 12, 13, 14, 15, 16
text: 9V; 5V; 4V

## BAX_EE25
designator BT?, comment Tranformer
Value: BA xung
footprint BAX_EE25 (EE25)
pins: 1, 2, 3, 4, 5, 6, 7, 8
text: 300V; 12V; 0V; 5V

## BAX_EE32
designator BT, comment Tranformer
Value: BA xung
footprint BAX_EE32 (EE32)
pins: 1, 3, 5, 6, 7, 8, 9, 10, 11, 12
text: 300V; 0V

## BT137
designator IC?
Triacs - 8A; Value: LM317
footprint QTO-220 (TO-220 - 1-2-3)
pins: 1 MT1, 2 MT2, 3 IN
text: G

## BXR315A
designator BX?, comment BXR513A
Xtal For RF
footprint BXR315A (Xtal for RF)
pins: 1, 2, 3

## C1815
designator Q?
NPN 600mW, ECB; Value: C1815
footprint QTO-92 (TO-92)
footprint SOT23B (SOT 23B)
pins: 1 E, 2 C, 3 B

## C9013
designator Q?, comment C9015
PNP 600mW, EBC; Value: C9015
footprint QTO-92 (TO-92)
pins: 1 E, 2 B, 3 C

## C9014
designator Q?
PNP 600mW, EBC; Value: C9014
footprint QTO-92 (TO-92)
footprint SOT23C (SOT 23C - 2-3-1 - BCE)
pins: 1 E, 2 B, 3 C

## CA3161
designator IC?
Decoder BCD to 7segAC; Value: CA3161
footprint DIP16/W0.3 (16 PIN, W 300mil, Pin to pin 100mil)
pins: 1 B, 2 C, 3 NC, 4 NC, 5 NC, 6 D, 7 A, 8 GND (power) hidden to GND, 9 e, 10 d, 11 c, 12 b, 13 a, 14 g, 15 f, 16 VCC (power) hidden to VCC

## CA3162
designator IC?
ADC to BCDx3; Value: CA3162
footprint DIP16/W0.3 (16 PIN, W 300mil, Pin to pin 100mil)
pins: 1 B, 2 A, 3 NSD, 4 MSD, 5 LSD, 6 HOLE, 7 GND (power), 8 ZA, 9 ZA, 10 -IN, 11 +IN, 12 CAP, 13 GAIN, 14 VCC (power), 15 C, 16 D

## CD4013B
designator IC?, comment CD4013
Dual D-Type Flip-Flop; Creat by: VanDungEvn@Gmail.com; Description: CD4013
footprint DIP14/W0.3 (14PIN, W 300mil, Pin to pin 100mil)
pins on every part: 7 GND (power) hidden to GND, 14 VDD (power) hidden to VDD
part A pins: 1 Q (out), 2 ~{Q} (out), 3 CLK (in), 4 RST (in), 5 D (in), 6 S (in)
part B pins: 8 S (in), 9 D (in), 10 RST (in), 11 CLK (in), 12 ~{Q} (out), 13 Q (out)
part A text: SET
part B text: SET

## CD4052
designator IC?
Dual 4-channel analogue  multiplexer/demultiplexer; Value: DIP16; Value: CD4052
footprint DIP16/W0.3 (16 PIN, W 300mil)
pins: 1 Y0, 2 Y2, 3 Y, 4 Y3, 5 Y1, 6 ~{EN}, 7 VEE, 8 VSS, 9 A1, 10 A0, 11 X3, 12 X0, 13 X, 14 X1, 15 X2, 16 VDD

## CD4053
designator IC?
Dual 4-channel analogue  multiplexer/demultiplexer; Value: DIP16; Value: CD4053
footprint DIP16/W0.3 (16 PIN, W 300mil)
pins: 1 Y1, 2 Y0, 3 Z1, 4 ZA, 5 Z0, 6 ~{EN}, 7 VEE, 8 VSS, 9 Z, 10 Y, 11 X, 12 X0, 13 X1, 14 XA, 15 YA, 16 VDD

## CD4066
designator IC?
Quad Analog Switch; Value: DIP14/W0.3; Value: CD4066
footprint DIP14/W0.3 (14PIN, W 300mil)
part A pins: 1 I/O (io), 2 O/I (io), 13 CNTL (in)
part B pins: 3 O/I (io), 4 I/O (io), 5 CNTL (in)
part C pins: 6 CNTL (in), 8 I/O (io), 9 O/I (io)
part D pins: 10 O/I (io), 11 I/O (io), 12 CNTL (in)

## CM
designator C?, comment 103
Cap SMD; Value: 103
footprint SM-0805 (Compoment SMD 80x50mil)
footprint SM-1206 (Compoment SMD 120x60mil)
pins: 1, 2

## CN
designator C?, comment 0,1uF/300V
Designed by: VanDungEvn; Value: 0,1uF/300V
footprint CN (Tu loc 220)
pins: 1, 2

## CN0
designator Cx?, comment 33pF
Cremic For Xtal 1pF => 100pF; Description: Cap np Cremic value 1pF => 100pF; Value: 33pF
footprint CN1
pins: 1, 2

## CN1
designator C?, comment 100pF
Cap np  1pF - 472pF; Description: Cap np Cremic Value  1pF => 472 pF; Value: 100pF
footprint CN1
pins: 1, 2

## CN1.5
designator C?, comment 103
Cap np 682pF => 104pF; Value: 0.01uF; Description: Cap np Cremic  682pF => 104 pF
footprint CN1.5
pins: 1, 2

## CN2
designator C?, comment 104
Cap np 104 => 105pF; Value: 0.1uF; Description: Cap np Cremic Value  104pF => 105pF
footprint CN2
pins: 1, 2

## CN3
designator C?, comment 473
Cap np W0.3; Value: 0,047uF; Description: Cap np Cremic  682pF => 104 pF; Copyright: VanDungEvn
footprint CN3 (Cap np W 0.3)
pins: 1, 2

## CN4
designator C?, comment 474
Cap np W0.4; Value: 0.47uF
footprint CN4 (Cap np W 0.4)
pins: 1, 2

## COM
designator *
footprint DSB 9-M (COM MALE D Subminiature; 9 Position; Right Angle; Pitch 1.385 mm)
pins: 1, 2, 3, 4, 5, 6, 7, 8, 9

## Con2
designator JP?, comment JP2
Connector 2; Value: Connector 2
footprint CON2
pins: 1, 2

## Con3
designator JP?, comment JP3
Connector 3; Value: Connector 3
footprint CON3 (CON 3)
pins: 1, 2, 3

## Con4
designator JP?, comment JP4
Connector 4; Value: Connector 4
footprint CON4
pins: 1, 2, 3, 4

## Con5
designator JP?, comment JP5
Connector 5; Value: Connector 5
footprint CON5
pins: 1, 2, 3, 4, 5

## Con6
designator JP?, comment JP6
Connector 6; Value: Connector 6
footprint CON6
pins: 1, 2, 3, 4, 5, 6

## Con7
designator JP?, comment JP7
Connector 7; Value: Connector 7
footprint CON7
pins: 1, 2, 3, 4, 5, 6, 7

## Con8
designator JP?, comment JP8
Connector 8; Value: Connector 8
footprint CON8
pins: 1, 2, 3, 4, 5, 6, 7, 8

## Con9
designator JP?, comment JP9
Connector 9; Value: Connector 9
footprint CON9
pins: 1, 2, 3, 4, 5, 6, 7, 8, 9

## Con10
designator JP?, comment JP10
Connector 10; Value: Connector 10
footprint CON10
pins: 1, 2, 3, 4, 5, 6, 7, 8, 9, 10

## Con11
designator JP?, comment JP11
Connector 11; Value: Connector 11
footprint CON11
pins: 1, 2, 3, 4, 5, 6, 7, 8, 9, 10, 11

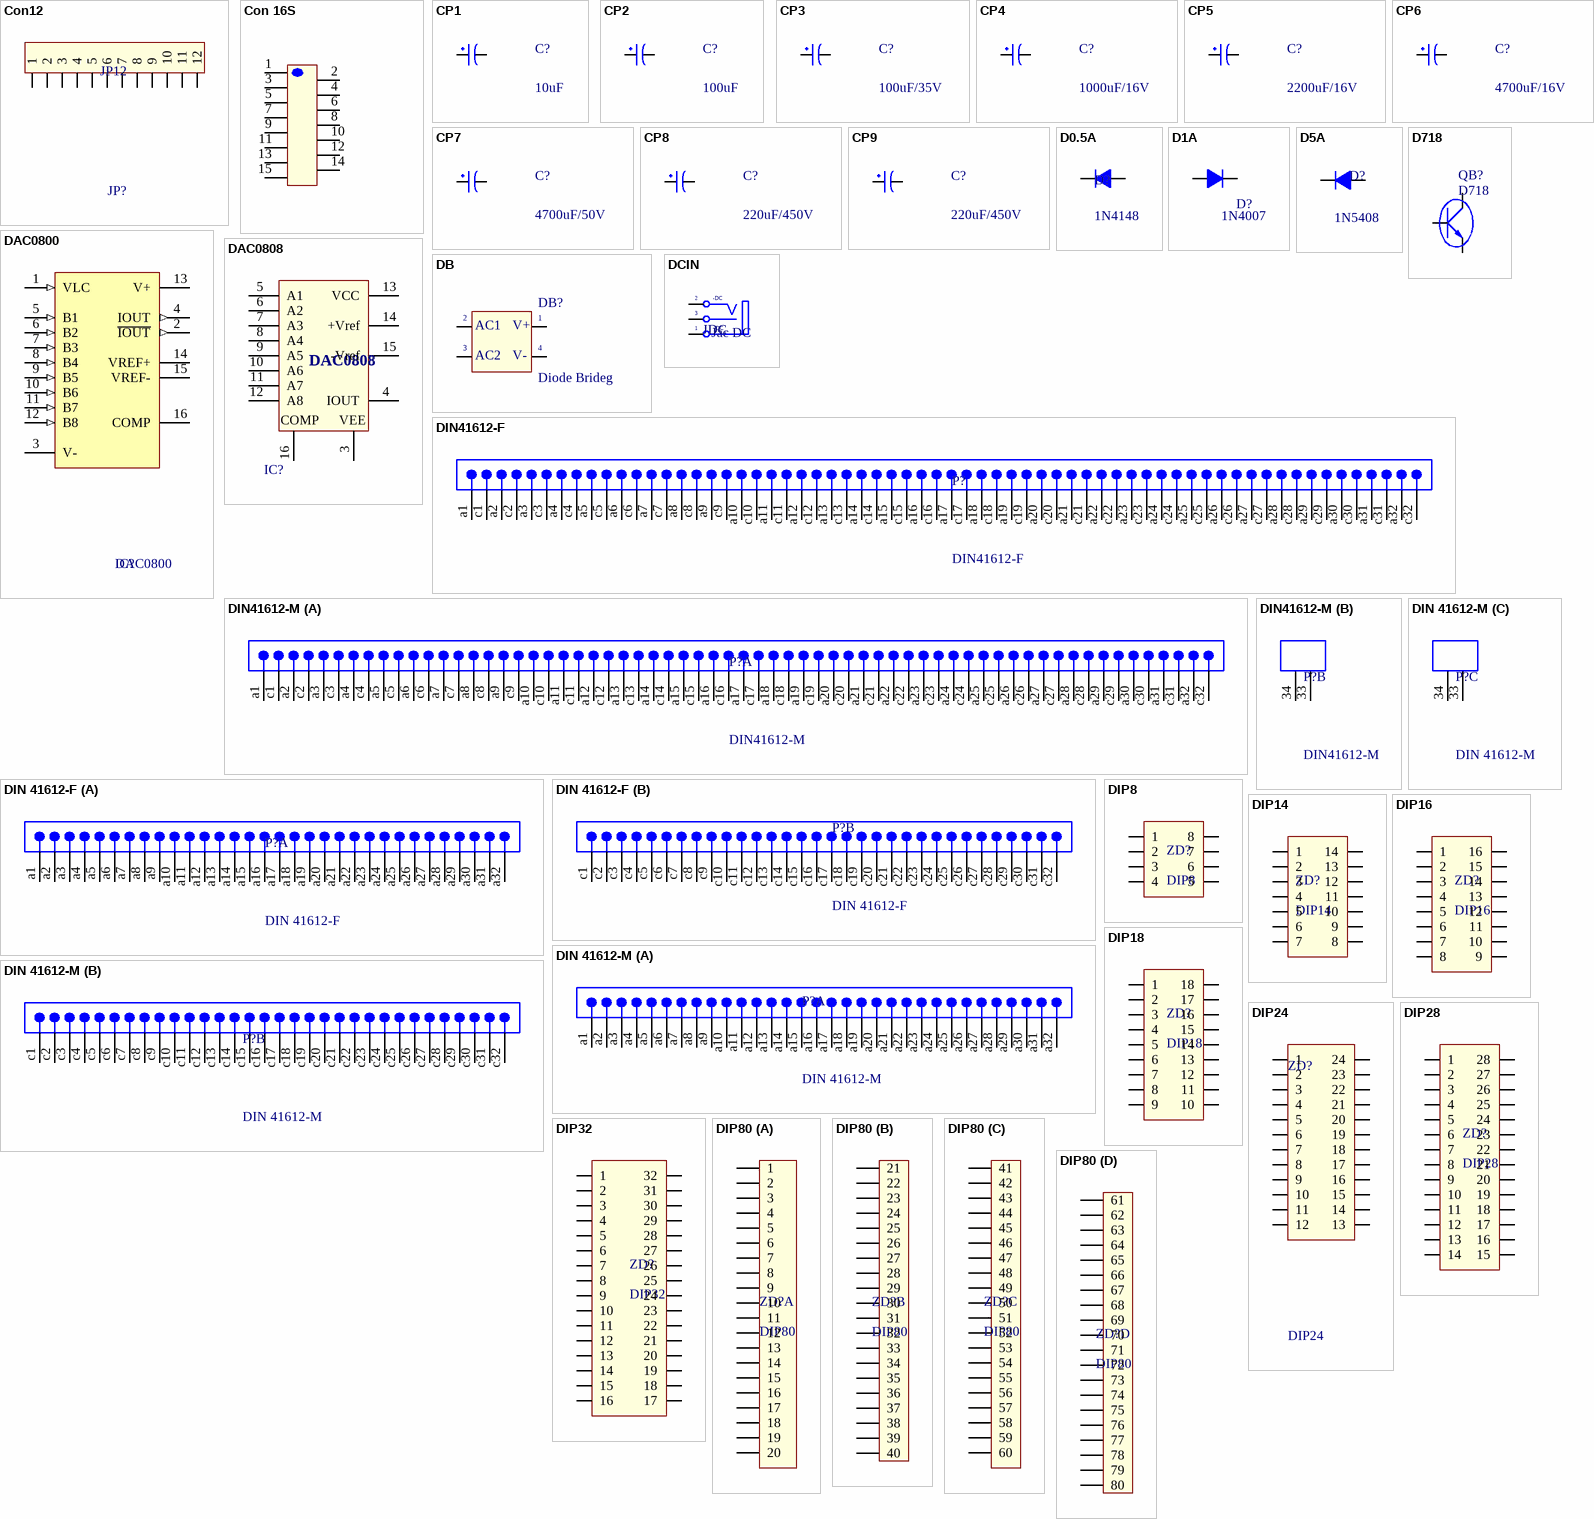
[diagram p5: symbols Con12 to DIP80]

## Con12
designator JP?, comment JP12
Connector 12; Value: Connector 12
footprint CON12
pins: 1, 2, 3, 4, 5, 6, 7, 8, 9, 10, 11, 12

## Con 16S
designator J?, comment Con16S
Connector 16S; Value: Con 16S
footprint CON16S (Jam 16S)
pins: 1, 2 3, 3 5, 4 7, 5 9, 6 11, 7 13, 8 15, 9 16, 10 17, 11 18, 12 19, 13 20, 14 21, 15 22

## CP1
designator C?, comment 10uF
Cap P  0,1uF < 22uF , 16 - 50V; Value: 10uF/50V; Description 1: 10 => 220uF/6,3V/10V - 10uF => 100uF/16V; Description 2: 0,1uF => 33uF/50V - 10uF => 22uF/63V; Description 3: 0,47uF => 10uF/100V
footprint CP1/2 (Tu hoa < 22uF/16>50V)
pins: 1, 2
1 alternate drawing of the same symbol

## CP2
designator C?, comment 100uF
C 47uF/50V , 220uF/16V; Value: 47uF/16 - 50V; Description 1: 470uF/6,3V - 330uF/10V - 220uF/16V; Description 2: 100uF/25V - 35V - 47uF/50V - 22uF/100V; Description 3: 33uF => 47uF/63V - 1uF => 4,7uF/160V; Description 4: 1uF => 2,2uF/250V - 1uF/350V
footprint CP1/2.5 (Tu hoa 33 >100 uF,50V, 220uF/16V,25V)
pins: 1, 2

## CP3
designator C?, comment 100uF/35V
Cap 100uF/35V - 470uF/16V; Value: 100uF/35V/50V; Description 1: 1000uF/6,3V - 470uF/16V - 330uF - 25V; Description 2: 220uF/35V - 100uF/50V - 63V - 4,7uF/200V; Description 3: 22uF => 33uF100V - 3,3uF => 4,7uF/250V; Description 4: 2,2uF =>3,3uF/350 - 2,2uF/400V - 1uF/450V
footprint CP1.5/3.4 (Tu hoa 220->470uF,16V, 470uF/16V,25V)
pins: 1, 2

## CP4
designator C?, comment 1000uF/16V
Cap 1000uF/16V - 220uF/50V; Description 5: 4,7uF>10uF/250V_3,3uF>10uF/400V - 2,2uF>4,7uF/450V; Description 1: 2200uF-3300uF/6,3V - 1000uF-2200uF/10V; Description 2: 1000uF/16V - 470uF => 1000uF/25V - 100uF/100V; Description 3: 330uF>470uF/35V_220uF>470uF/50V_10uF>22uF/250V; Description 4: 220uF => 330uF/63V - 10uF =>33uF/160 - 200V; Value: 1000uF/16V
footprint CP1.5/3.4 (Tu hoa 220->470uF,16V, 470uF/16V,25V)
pins: 1, 2

## CP5
designator C?, comment 2200uF/16V
Cap 2200uF/16V - 1000uF/50V; Description 5: 47uF/200V - 22uF/350V - 400V - 10uF/450V; Description 1: 4700uF-6800uF/6,3V - 3300uF-4700uF/10V; Description 2: 2200uF-3300uF/16V - 470uF => 2200uF/25V; Description 3: 1000uF/35V-50V_470uF/63V_220uF>330uF/100V; Description 4: 47uF => 100uF/160V - 33uF-47uF/250V; Value: 2200uF/16V
footprint CP2/4 (Tu hoa 1000uF/16V/25V)
pins: 1, 2

## CP6
designator C?, comment 4700uF/16V
Cap 4700uF/16V - 2200uF/50V; Description 5: 100uF=>220uF/200V -100uF=>330uF/350V; Description 1: 10KuF=>22KuF/6,3V - 6800uF=>15KuF/10V; Description 2: 4700uF=>10KuF/16V - 3300uF => 6800uF/25V; Description 3: 2200uF=>3300uF/50V_1KuF=>2200uF/63V; Description 4: 470uF => 1KuF/100V - 220uF-470uF/160V; Value: 2200uF/16V; Description 6: 33uF=>100/350V-400V  -  22uF=>33uF/450V
footprint CP3/7 (Tu hoa 4700uF/25V)
pins: 1, 2

## CP7
designator C?, comment 4700uF/50V
Cap 4700uF/50V; Value: 4700uF/50V
footprint CP4/8.5 (Tu hoa 4700uF/50V)
pins: 1, 2

## CP8
designator C?, comment 220uF/450V
Cap 4700uF/50V; Value: 220uF/450V
footprint CP4/12 (Tu hoa 220uF/450V)
pins: 1, 2

## CP9
designator C?, comment 220uF/450V
Cap 10000uF/63V; Value: 220uF/450V
footprint CP4.5/19 (Tu hoa 10,000uF/63V)
pins: 1, 2

## D0.5A
designator D?, comment 1N4148
D0.5A; Value: 1N4148
footprint D0.5A (Diode muoi, W 80mil, L 300mil)
pins: 1 A, 2 K

## D1A
designator D?, comment 1N4007
Diode 1A; Value: 1N4007
footprint D1A (Diode 1A, W 100mil, L 350mil)
footprint D2A (Diode 2A, W 150mil, L 450mil)
pins: 1 A, 2 K

## D5A
designator D?, comment 1N5408
Diode 5A; Value: 1N5408
footprint D5A (Diode 5A, W 200mil, L 550mil)
footprint D5AN (Diode 5A, W 200mil, L 250mil)
pins: 1 A, 2 K

## D718
designator QB?
Transistor Power Supply; Value: D718
footprint QTO-247 (TO-247)
pins: 1 B, 2 C, 3 E

## DAC0800
designator IC?
8-Bit Digital-to-Analog Converter; Value: DAC0800
footprint DIP16/W0.3 (16 PIN, W 300mil, Pin to pin 100mil)
pins: 1 VLC (in), 2 ~{IOUT} (out), 3 V- (power), 4 IOUT (out), 5 B1 (in), 6 B2 (in), 7 B3 (in), 8 B4 (in), 9 B5 (in), 10 B6 (in), 11 B7 (in), 12 B8 (in), 13 V+ (power), 14 VREF+, 15 VREF-, 16 COMP

## DAC0808
designator IC?
8 Bits Digital Analog Convert; Value: DAC0808
footprint DIP16/W0.3 (16 PIN, W 300mil, Pin to pin 100mil)
pins: 2 GND (power) hidden to GND, 3 VEE, 4 IOUT, 5 A1, 6 A2, 7 A3, 8 A4, 9 A5, 10 A6, 11 A7, 12 A8, 13 VCC (power), 14 +Vref, 15 -Vref, 16 COMP
2 alternate drawings of the same symbol

## DB
designator DB?, comment Diode Brideg
Convert AC to DC voltage, 4 pin; Value: Cau 1A
footprint CAU 1A (CAU 1A DET)
footprint CAU 5A (CAU 5A DET)
footprint Cau 10A (CAU 10A det)
footprint CAU 1AC (CAU 1A TRON)
pins: 1 +V OUT, 2 AC1, 3 AC2, 4 -V OUT
text: V+; V-

## DCIN
designator JDC, comment Jac DC
Jac DC input; Value: Jac DC
footprint DC-IN (Jac DC input)
pins: 1 T "Tip", 2 TN "Tip Normal (Break Contact)", 3 S (power) "Sleeve (Ground)"
text: -DC; +DC

## DIN41612-F
designator P?
Eurocard DIN 41612, Type C, 64 Position, Rows a+c, Performance level 1, Male, Lead 3.0 mm, Pitch 2.54 mm; DrillSize: Corresponds to nominal value.; Published: 6-Oct-2005; DatasheetDocument: 02-Jun-2003; PackageDocument: 03-Jul-2000; PackageReference: 0903164x922; Publisher: Altium Limited; ComponentLink1Description: Manufacturer Link; ComponentLink1URL: http://www.harting.com/; ComponentLink2Description: Packaging Specification; ComponentLink2URL: http://www.harkis.harting.com/_gds/pdf/TB_0903164x922_BL01_R27486.pdf
footprint DIN41612-F (Connector; DIN 41612, Type C, Thru-Hole; Rows a+c, 64 Position; Vertical; No Mounting Fixture)
signal-integrity model DIN 41612
pins: a1, a2, a3, a4, a5, a6, a7, a8, a9, a10, a11, a12, a13, a14, a15, a16, a17, a18, a19, a20, a21, a22, a23, a24, a25, a26, a27, a28, a29, a30, a31, a32, c1, c2, c3, c4, c5, c6, c7, c8, c9, c10, c11, c12, c13, c14, c15, c16, c17, c18, c19, c20, c21, c22, c23, c24, c25, c26, c27, c28, c29, c30, c31, c32

## DIN41612-M
designator P?
Eurocard DIN 41612, Type C, 62+2 Position, Rows a+c, Performance level 1, Male, Lead 3.0 mm, Pitch 2.54 mm; Note: Two leading contacts at positions a1 & a32.; DrillSize: Corresponds to nominal value.; Published: 6-Oct-2005; DatasheetDocument: 02-Jun-2003; PackageDocument: 18-May-2000; PackageReference: 0903164x951; Publisher: Altium Limited; ComponentLink1Description: Manufacturer Link; ComponentLink1URL: http://www.harting.com/; ComponentLink2Description: Packaging Specification; ComponentLink2URL: http://www.harkis.harting.com/_gds/pdf/TB_0903164x951_BL01_R27477.pdf
footprint DIN41612-M (Connector; DIN 41612, Type C, Thru-Hole; Rows a+c, 64 Position; Right Angle)
signal-integrity model DIN 41612
part A pins: a1, a2, a3, a4, a5, a6, a7, a8, a9, a10, a11, a12, a13, a14, a15, a16, a17, a18, a19, a20, a21, a22, a23, a24, a25, a26, a27, a28, a29, a30, a31, a32, c1, c2, c3, c4, c5, c6, c7, c8, c9, c10, c11, c12, c13, c14, c15, c16, c17, c18, c19, c20, c21, c22, c23, c24, c25, c26, c27, c28, c29, c30, c31, c32
part B pins: 33 MH1 "Mounting Fixture", 34 MH2 "Mounting Fixture"

## DIN 41612-F
designator P?
Eurocard DIN 41612, Type C, 64 Position, Rows a+c, Performance level 1, Male, Lead 3.0 mm, Pitch 2.54 mm; DrillSize: Corresponds to nominal value.; Published: 6-Oct-2005; DatasheetDocument: 02-Jun-2003; PackageDocument: 03-Jul-2000; PackageReference: 0903164x922; Publisher: Altium Limited; ComponentLink1Description: Manufacturer Link; ComponentLink1URL: http://www.harting.com/; ComponentLink2Description: Packaging Specification; ComponentLink2URL: http://www.harkis.harting.com/_gds/pdf/TB_0903164x922_BL01_R27486.pdf
footprint DIN41612-F (Connector; DIN 41612, Type C, Thru-Hole; Rows a+c, 64 Position; Vertical; No Mounting Fixture)
signal-integrity model DIN 41612
part A pins: a1, a2, a3, a4, a5, a6, a7, a8, a9, a10, a11, a12, a13, a14, a15, a16, a17, a18, a19, a20, a21, a22, a23, a24, a25, a26, a27, a28, a29, a30, a31, a32
part B pins: c1, c2, c3, c4, c5, c6, c7, c8, c9, c10, c11, c12, c13, c14, c15, c16, c17, c18, c19, c20, c21, c22, c23, c24, c25, c26, c27, c28, c29, c30, c31, c32

## DIN 41612-M
designator P?
Eurocard DIN 41612, Type C, 62+2 Position, Rows a+c, Performance level 1, Male, Lead 3.0 mm, Pitch 2.54 mm; Note: Two leading contacts at positions a1 & a32.; DrillSize: Corresponds to nominal value.; Published: 6-Oct-2005; DatasheetDocument: 02-Jun-2003; PackageDocument: 18-May-2000; PackageReference: 0903164x951; Publisher: Altium Limited; ComponentLink1Description: Manufacturer Link; ComponentLink1URL: http://www.harting.com/; ComponentLink2Description: Packaging Specification; ComponentLink2URL: http://www.harkis.harting.com/_gds/pdf/TB_0903164x951_BL01_R27477.pdf
footprint DIN41612-M (Connector; DIN 41612, Type C, Thru-Hole; Rows a+c, 64 Position; Right Angle)
signal-integrity model DIN 41612
part A pins: a1, a2, a3, a4, a5, a6, a7, a8, a9, a10, a11, a12, a13, a14, a15, a16, a17, a18, a19, a20, a21, a22, a23, a24, a25, a26, a27, a28, a29, a30, a31, a32
part B pins: c1, c2, c3, c4, c5, c6, c7, c8, c9, c10, c11, c12, c13, c14, c15, c16, c17, c18, c19, c20, c21, c22, c23, c24, c25, c26, c27, c28, c29, c30, c31, c32
part C pins: 33 MH1 "Mounting Fixture", 34 MH2 "Mounting Fixture"

## DIP8
designator ZD?
Value: DIP8
footprint DIP8/W0.3 (8 PIN, W 300mil, Pin to pin 100mil)
pins: 1, 2, 3, 4, 5, 6, 7, 8

## DIP14
designator ZD?
Value: DIP14
footprint DIP14/W0.3 (14PIN, W 300mil, Pin to pin 100mil)
pins: 1, 2, 3, 4, 5, 6, 7, 8, 9, 10, 11, 12, 13, 14

## DIP16
designator ZD?
Value: DIP16
footprint DIP16/W0.3 (16 PIN, W 300mil, Pin to pin 100mil)
pins: 1, 2, 3, 4, 5, 6, 7, 8, 9, 10, 11, 12, 13, 14, 15, 16

## DIP18
designator ZD?
Value: DIP18
footprint DIP18/W0.3 (18 PIN, W 300mil, Pin to pin 100mil)
pins: 1, 2, 3, 4, 5, 6, 7, 8, 9, 10, 11, 12, 13, 14, 15, 16, 17, 18

## DIP24
designator ZD?
Value: DIP24
footprint DIP28/W0.3 (28 PIN, W 300mil, Pin to pin 100mil)
pins: 1, 2, 3, 4, 5, 6, 7, 8, 9, 10, 11, 12, 13, 14, 15, 16, 17, 18, 19, 20, 21, 22, 23, 24

## DIP28
designator ZD?
Value: DIP28
footprint DIP28/W0.3 (28 PIN, W 300mil, Pin to pin 100mil)
pins: 1, 2, 3, 4, 5, 6, 7, 8, 9, 10, 11, 12, 13, 14, 15, 16, 17, 18, 19, 20, 21, 22, 23, 24, 25, 26, 27, 28

## DIP32
designator ZD?
Value: ZIP32
footprint DIP32/W0.6 (DIP32/W.600, Pin to pin 100mil)
pins: 1, 2, 3, 4, 5, 6, 7, 8, 9, 10, 11, 12, 13, 14, 15, 16, 17, 18, 19, 20, 21, 22, 23, 24, 25, 26, 27, 28, 29, 30, 31, 32